# Altium integrated library Altera APEX 20K.IntLib: 93 symbols (part 5 of 14)
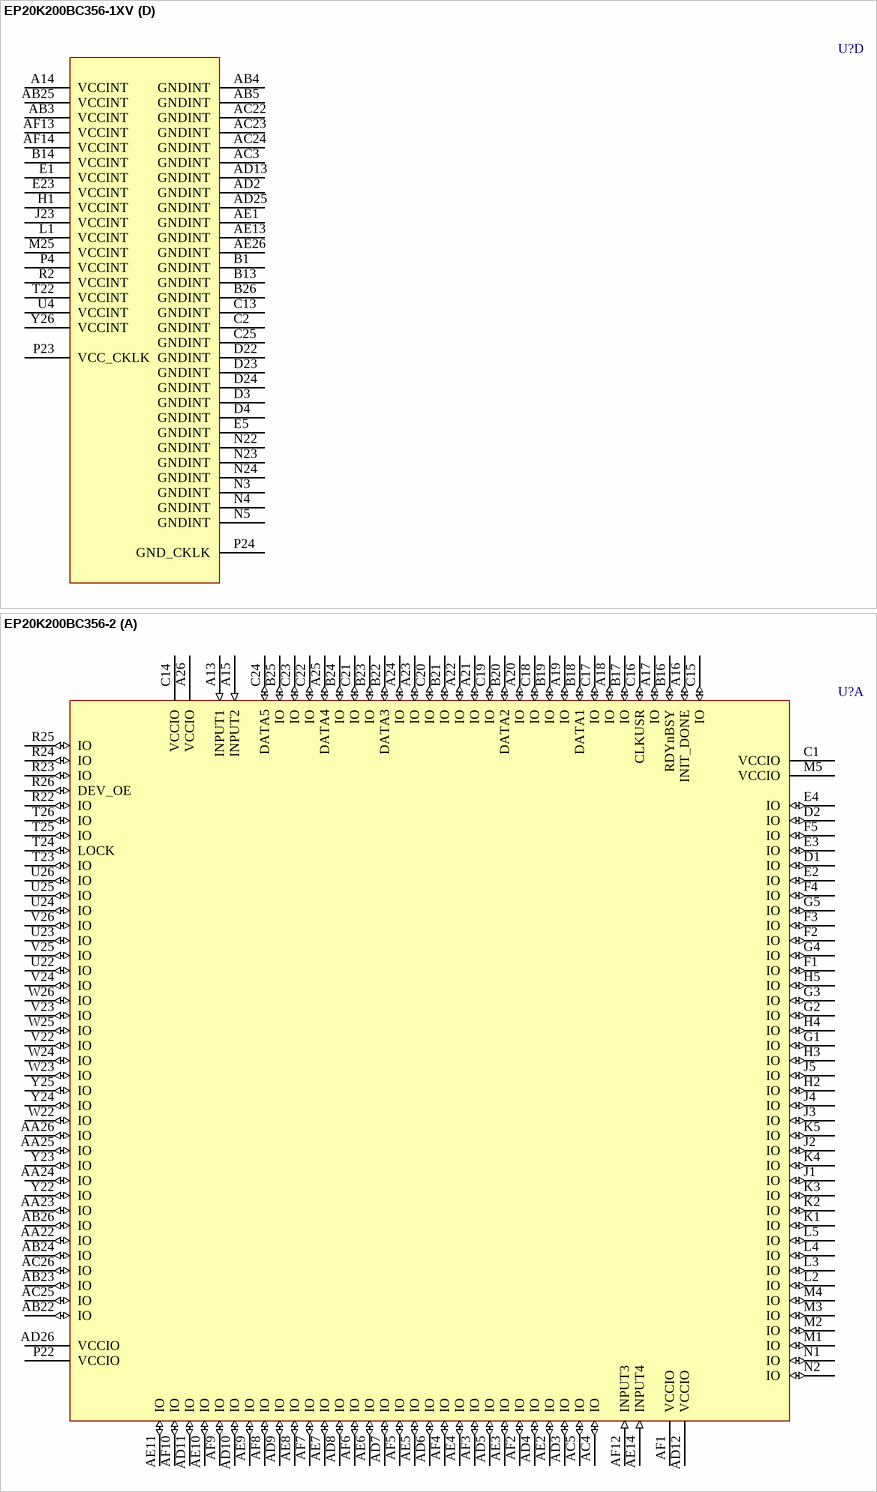
[diagram p206: symbols EP20K200BC356-1XV to EP20K200BC356-2]

## EP20K200BC356-1XV
designator U?
APEX 20K200 PLD with PLLs and 5 V tolerant inputs, 356-Pin BGA, Commercial Grade, Speed Grade 1; ComponentAvailability: Last order accepted - 22-Jul-2005; Published: 17-Jul-2002; LatestRevisionDate: 13-Apr-2006; LatestRevisionNote: IPC-7351 Footprint Added.; DatasheetVersion: ver5.1, Mar-2004; PackageVersion: ver14.2, Oct-2005; PackageReference: BGA356; Publisher: Altium Limited; PackageDescription: 356-Ball Ball Grid Array (BGA356); Code_JEDEC: MO-192-BAR-2; ComponentLink1Description: Manufacturer Link; ComponentLink1URL: http://www.altera.com/products/devices/apex/apx-index.html; ComponentLink2Description: Datasheet; ComponentLink2URL: http://www.altera.com/literature/ds/apex.pdf; ComponentLink3Description: Discontinuation Notice; ComponentLink3URL: http://www.altera.com/literature/pcn/pdn0401.pdf
footprint BGA356 (BGA, 356-Leads, Body 35x35mm, Pitch 1.27mm)
3D model EP20K200-BGA356 (356-Ball Ball Grid Array (BGA356))
part A pins: A13 INPUT1 (in), A15 INPUT2 (in), A16 INIT_DONE (io), A17 IO (io), A18 IO (io), A19 IO (io), A20 IO (io), A21 IO (io), A22 IO (io), A23 IO (io), A24 IO (io), A25 DATA4 (io), A26 VCCIO (power), AA22 IO (io), AA23 IO (io), AA24 IO (io), AA25 IO (io), AA26 IO (io), AB22 IO (io), AB23 IO (io), AB24 IO (io), AB26 IO (io), AC4 IO (io), AC5 IO (io), AC25 IO (io), AC26 IO (io), AD3 IO (io), AD4 IO (io), AD5 IO (io), AD6 IO (io), AD7 IO (io), AD8 IO (io), AD9 IO (io), AD10 IO (io), AD11 IO (io), AD12 VCCIO (power), AD26 VCCIO (power), AE2 IO (io), AE3 IO (io), AE4 IO (io), AE5 IO (io), AE6 IO (io), AE7 IO (io), AE8 IO (io), AE9 IO (io), AE10 IO (io), AE11 IO (io), AE14 INPUT4 (in), AF1 VCCIO (power), AF2 IO (io), AF3 IO (io), AF4 IO (io), AF5 IO (io), AF6 IO (io), AF7 IO (io), AF8 IO (io), AF9 IO (io), AF10 IO (io), AF12 INPUT3 (in), B16 RDYnBSY (io), B17 IO (io), B18 DATA1 (io), B19 IO (io), B20 DATA2 (io), B21 IO (io), B22 DATA3 (io), B23 IO (io), B24 IO (io), B25 IO (io), C1 VCCIO (power), C14 VCCIO (power), C15 IO (io), C16 CLKUSR (io), C17 IO (io), C18 IO (io), C19 IO (io), C20 IO (io), C21 IO (io), C22 IO (io), C23 IO (io), C24 DATA5 (io), D1 IO (io), D2 IO (io), E2 IO (io), E3 IO (io), E4 IO (io), F1 IO (io), F2 IO (io), F3 IO (io), F4 IO (io), F5 IO (io), G1 IO (io), G2 IO (io), G3 IO (io), G4 IO (io), G5 IO (io), H2 IO (io), H3 IO (io), H4 IO (io), H5 IO (io), J1 IO (io), J2 IO (io), J3 IO (io), J4 IO (io), J5 IO (io), K1 IO (io), K2 IO (io), K3 IO (io), K4 IO (io), K5 IO (io), L2 IO (io), L3 IO (io), L4 IO (io), L5 IO (io), M1 IO (io), M2 IO (io), M3 IO (io), M4 IO (io), M5 VCCIO (power), N1 IO (io), N2 IO (io), P22 VCCIO (power), R22 IO (io), R23 IO (io), R24 IO (io), R25 IO (io), R26 DEV_OE (io), T23 IO (io), T24 LOCK (io), T25 IO (io), T26 IO (io), U22 IO (io), U23 IO (io), U24 IO (io), U25 IO (io), U26 IO (io), V22 IO (io), V23 IO (io), V24 IO (io), V25 IO (io), V26 IO (io), W22 IO (io), W23 IO (io), W24 IO (io), W25 IO (io), W26 IO (io), Y22 IO (io), Y23 IO (io), Y24 IO (io), Y25 IO (io)
part B pins: A1 VCCIO (power), A2 IO (io), A3 IO (io), A4 IO (io), A5 IO (io), A6 IO (io), A7 IO (io), A8 IO (io), A9 IO (io), A10 IO (io), A11 IO (io), AA1 IO (io), AA2 IO (io), AA3 IO (io), AA4 IO (io), AA5 IO (io), AB1 IO (io), AB2 IO (io), AC1 IO (io), AC2 IO (io), AD1 VCCIO (power), AD14 VCCIO (power), AD15 IO (io), AD16 IO (io), AD17 IO (io), AD18 IO (io), AD19 IO (io), AD20 IO (io), AD21 IO (io), AD22 IO (io), AD23 IO (io), AD24 IO (io), AE16 IO (io), AE17 IO (io), AE18 IO (io), AE19 IO (io), AE20 IO (io), AE21 IO (io), AE22 IO (io), AE23 IO (io), AE24 IO (io), AE25 IO (io), AF16 IO (io), AF17 IO (io), AF18 IO (io), AF19 IO (io), AF20 IO (io), AF21 IO (io), AF22 IO (io), AF23 IO (io), AF24 IO (io), AF25 IO (io), AF26 VCCIO (power), B2 IO (io), B3 IO (io), B4 IO (io), B5 IO (io), B6 IO (io), B7 IO (io), B8 IO (io), B9 IO (io), B10 IO (io), B11 IO (io), C3 IO (io), C4 IO (io), C5 IO (io), C6 IO (io), C7 IO (io), C8 IO (io), C9 IO (io), C10 IO (io), C11 IO (io), C12 VCCIO (power), C26 VCCIO (power), D5 IO (io), D25 IO (io), D26 IO (io), E22 IO (io), E24 IO (io), E25 IO (io), E26 IO (io), F22 IO (io), F23 IO (io), F24 DATA6 (io), F25 IO (io), F26 IO (io), G22 IO (io), G23 DATA7 (io), G24 IO (io), G25 IO (io), G26 IO (io), H22 nWS (io), H23 IO (io), H24 nRS (io), H25 IO (io), H26 IO (io), J22 IO (io), J24 nCS (io), J25 IO (io), J26 IO (io), K22 IO (io), K23 IO (io), K24 IO (io), K25 CS (io), K26 IO (io), L22 IO (io), L23 DEV_CLRn (io), L24 IO (io), L25 IO (io), L26 IO (io), M22 VCCIO (power), M23 IO (io), M24 IO (io), N26 CLK2 (in), P3 CLK1 (in), P5 VCCIO (power), R3 IO (io), R4 IO (io), R5 IO (io), T1 IO (io), T2 IO (io), T3 IO (io), T4 IO (io), T5 IO (io), U1 IO (io), U2 IO (io), U3 IO (io), U5 IO (io), V1 IO (io), V2 IO (io), V3 IO (io), V4 IO (io), V5 IO (io), W1 IO (io), W2 IO (io), W3 IO (io), W4 IO (io), W5 IO (io), Y1 IO (io), Y2 IO (io), Y3 IO (io), Y4 IO (io), Y5 IO (io)
part C pins: A12 nCEO (out), AE12 TCK (in), AE15 CONF_DONE (io), AF11 TMS (in), AF15 nSTATUS (io), B12 TRST (in), B15 TDO (out), M26 DATA0 (in), N25 DCLK (in), P1 MSEL0 (in), P2 MSEL1 (in), P25 TDI (in), P26 nCE (in), R1 nCONFIG (in)
part D pins: A14 VCCINT (power), AB3 VCCINT (power), AB4 GNDINT (power), AB5 GNDINT (power), AB25 VCCINT (power), AC3 GNDINT (power), AC22 GNDINT (power), AC23 GNDINT (power), AC24 GNDINT (power), AD2 GNDINT (power), AD13 GNDINT (power), AD25 GNDINT (power), AE1 GNDINT (power), AE13 GNDINT (power), AE26 GNDINT (power), AF13 VCCINT (power), AF14 VCCINT (power), B1 GNDINT (power), B13 GNDINT (power), B14 VCCINT (power), B26 GNDINT (power), C2 GNDINT (power), C13 GNDINT (power), C25 GNDINT (power), D3 GNDINT (power), D4 GNDINT (power), D22 GNDINT (power), D23 GNDINT (power), D24 GNDINT (power), E1 VCCINT (power), E5 GNDINT (power), E23 VCCINT (power), H1 VCCINT (power), J23 VCCINT (power), L1 VCCINT (power), M25 VCCINT (power), N3 GNDINT (power), N4 GNDINT (power), N5 GNDINT (power), N22 GNDINT (power), N23 GNDINT (power), N24 GNDINT (power), P4 VCCINT (power), P23 VCC_CKLK (power), P24 GND_CKLK (power), R2 VCCINT (power), T22 VCCINT (power), U4 VCCINT (power), Y26 VCCINT (power)

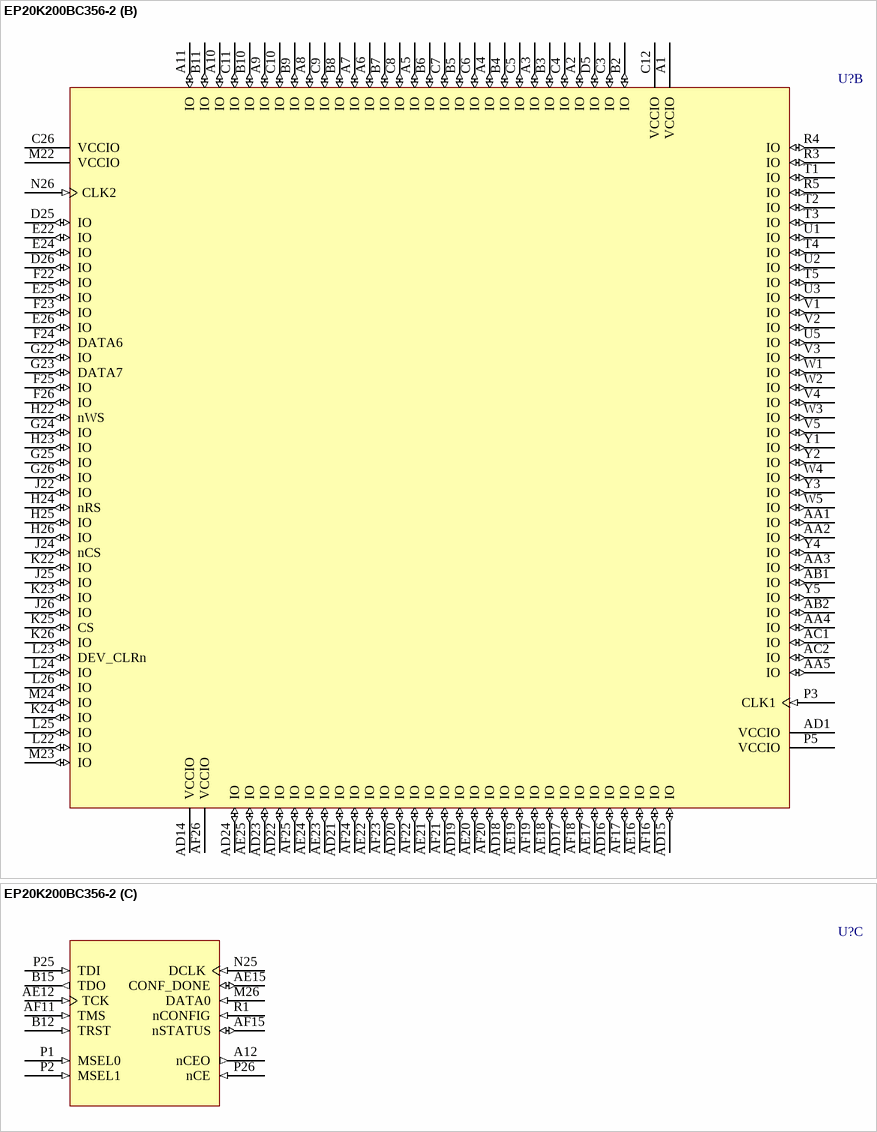
[diagram p53: symbol EP20K200BC356-2]

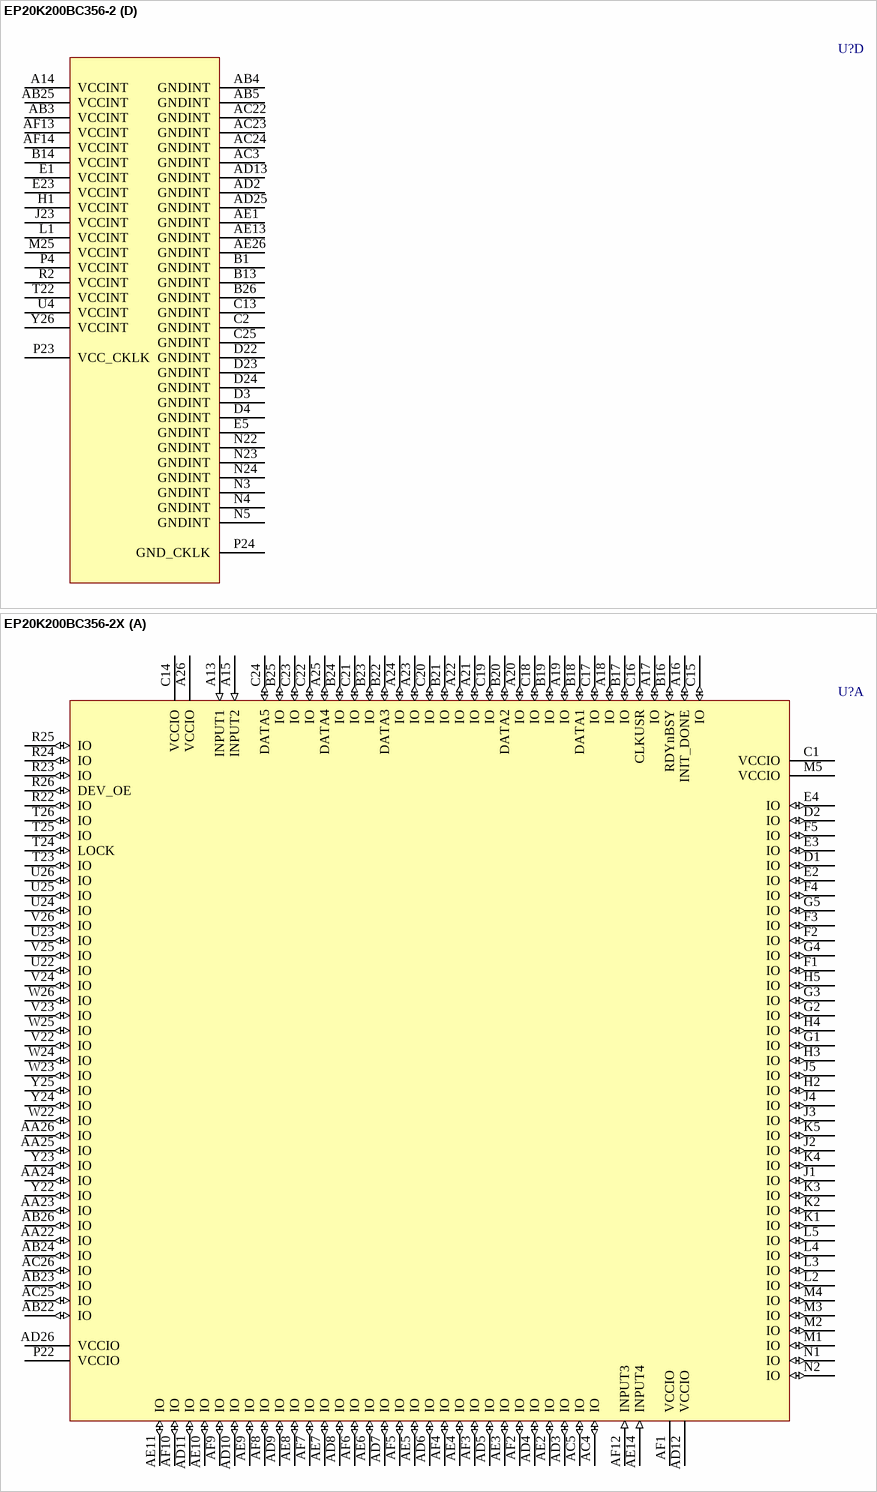
[diagram p54: symbols EP20K200BC356-2 to EP20K200BC356-2X]

## EP20K200BC356-2
designator U?
APEX 20K200 PLD, 356-Pin BGA, Commercial Grade, Speed Grade 2; Published: 17-Jul-2002; LatestRevisionDate: 13-Apr-2006; LatestRevisionNote: IPC-7351 Footprint Added.; DatasheetVersion: ver5.1, Mar-2004; PackageVersion: ver14.2, Oct-2005; PackageReference: BGA356; Publisher: Altium Limited; PackageDescription: 356-Ball Ball Grid Array (BGA356); Code_JEDEC: MO-192-BAR-2; ComponentLink1Description: Manufacturer Link; ComponentLink1URL: http://www.altera.com/products/devices/apex/apx-index.html; ComponentLink2Description: Datasheet; ComponentLink2URL: http://www.altera.com/literature/ds/apex.pdf
footprint BGA356 (BGA, 356-Leads, Body 35x35mm, Pitch 1.27mm)
3D model EP20K200-BGA356 (356-Ball Ball Grid Array (BGA356))
part A pins: A13 INPUT1 (in), A15 INPUT2 (in), A16 INIT_DONE (io), A17 IO (io), A18 IO (io), A19 IO (io), A20 IO (io), A21 IO (io), A22 IO (io), A23 IO (io), A24 IO (io), A25 DATA4 (io), A26 VCCIO (power), AA22 IO (io), AA23 IO (io), AA24 IO (io), AA25 IO (io), AA26 IO (io), AB22 IO (io), AB23 IO (io), AB24 IO (io), AB26 IO (io), AC4 IO (io), AC5 IO (io), AC25 IO (io), AC26 IO (io), AD3 IO (io), AD4 IO (io), AD5 IO (io), AD6 IO (io), AD7 IO (io), AD8 IO (io), AD9 IO (io), AD10 IO (io), AD11 IO (io), AD12 VCCIO (power), AD26 VCCIO (power), AE2 IO (io), AE3 IO (io), AE4 IO (io), AE5 IO (io), AE6 IO (io), AE7 IO (io), AE8 IO (io), AE9 IO (io), AE10 IO (io), AE11 IO (io), AE14 INPUT4 (in), AF1 VCCIO (power), AF2 IO (io), AF3 IO (io), AF4 IO (io), AF5 IO (io), AF6 IO (io), AF7 IO (io), AF8 IO (io), AF9 IO (io), AF10 IO (io), AF12 INPUT3 (in), B16 RDYnBSY (io), B17 IO (io), B18 DATA1 (io), B19 IO (io), B20 DATA2 (io), B21 IO (io), B22 DATA3 (io), B23 IO (io), B24 IO (io), B25 IO (io), C1 VCCIO (power), C14 VCCIO (power), C15 IO (io), C16 CLKUSR (io), C17 IO (io), C18 IO (io), C19 IO (io), C20 IO (io), C21 IO (io), C22 IO (io), C23 IO (io), C24 DATA5 (io), D1 IO (io), D2 IO (io), E2 IO (io), E3 IO (io), E4 IO (io), F1 IO (io), F2 IO (io), F3 IO (io), F4 IO (io), F5 IO (io), G1 IO (io), G2 IO (io), G3 IO (io), G4 IO (io), G5 IO (io), H2 IO (io), H3 IO (io), H4 IO (io), H5 IO (io), J1 IO (io), J2 IO (io), J3 IO (io), J4 IO (io), J5 IO (io), K1 IO (io), K2 IO (io), K3 IO (io), K4 IO (io), K5 IO (io), L2 IO (io), L3 IO (io), L4 IO (io), L5 IO (io), M1 IO (io), M2 IO (io), M3 IO (io), M4 IO (io), M5 VCCIO (power), N1 IO (io), N2 IO (io), P22 VCCIO (power), R22 IO (io), R23 IO (io), R24 IO (io), R25 IO (io), R26 DEV_OE (io), T23 IO (io), T24 LOCK (io), T25 IO (io), T26 IO (io), U22 IO (io), U23 IO (io), U24 IO (io), U25 IO (io), U26 IO (io), V22 IO (io), V23 IO (io), V24 IO (io), V25 IO (io), V26 IO (io), W22 IO (io), W23 IO (io), W24 IO (io), W25 IO (io), W26 IO (io), Y22 IO (io), Y23 IO (io), Y24 IO (io), Y25 IO (io)
part B pins: A1 VCCIO (power), A2 IO (io), A3 IO (io), A4 IO (io), A5 IO (io), A6 IO (io), A7 IO (io), A8 IO (io), A9 IO (io), A10 IO (io), A11 IO (io), AA1 IO (io), AA2 IO (io), AA3 IO (io), AA4 IO (io), AA5 IO (io), AB1 IO (io), AB2 IO (io), AC1 IO (io), AC2 IO (io), AD1 VCCIO (power), AD14 VCCIO (power), AD15 IO (io), AD16 IO (io), AD17 IO (io), AD18 IO (io), AD19 IO (io), AD20 IO (io), AD21 IO (io), AD22 IO (io), AD23 IO (io), AD24 IO (io), AE16 IO (io), AE17 IO (io), AE18 IO (io), AE19 IO (io), AE20 IO (io), AE21 IO (io), AE22 IO (io), AE23 IO (io), AE24 IO (io), AE25 IO (io), AF16 IO (io), AF17 IO (io), AF18 IO (io), AF19 IO (io), AF20 IO (io), AF21 IO (io), AF22 IO (io), AF23 IO (io), AF24 IO (io), AF25 IO (io), AF26 VCCIO (power), B2 IO (io), B3 IO (io), B4 IO (io), B5 IO (io), B6 IO (io), B7 IO (io), B8 IO (io), B9 IO (io), B10 IO (io), B11 IO (io), C3 IO (io), C4 IO (io), C5 IO (io), C6 IO (io), C7 IO (io), C8 IO (io), C9 IO (io), C10 IO (io), C11 IO (io), C12 VCCIO (power), C26 VCCIO (power), D5 IO (io), D25 IO (io), D26 IO (io), E22 IO (io), E24 IO (io), E25 IO (io), E26 IO (io), F22 IO (io), F23 IO (io), F24 DATA6 (io), F25 IO (io), F26 IO (io), G22 IO (io), G23 DATA7 (io), G24 IO (io), G25 IO (io), G26 IO (io), H22 nWS (io), H23 IO (io), H24 nRS (io), H25 IO (io), H26 IO (io), J22 IO (io), J24 nCS (io), J25 IO (io), J26 IO (io), K22 IO (io), K23 IO (io), K24 IO (io), K25 CS (io), K26 IO (io), L22 IO (io), L23 DEV_CLRn (io), L24 IO (io), L25 IO (io), L26 IO (io), M22 VCCIO (power), M23 IO (io), M24 IO (io), N26 CLK2 (in), P3 CLK1 (in), P5 VCCIO (power), R3 IO (io), R4 IO (io), R5 IO (io), T1 IO (io), T2 IO (io), T3 IO (io), T4 IO (io), T5 IO (io), U1 IO (io), U2 IO (io), U3 IO (io), U5 IO (io), V1 IO (io), V2 IO (io), V3 IO (io), V4 IO (io), V5 IO (io), W1 IO (io), W2 IO (io), W3 IO (io), W4 IO (io), W5 IO (io), Y1 IO (io), Y2 IO (io), Y3 IO (io), Y4 IO (io), Y5 IO (io)
part C pins: A12 nCEO (out), AE12 TCK (in), AE15 CONF_DONE (io), AF11 TMS (in), AF15 nSTATUS (io), B12 TRST (in), B15 TDO (out), M26 DATA0 (in), N25 DCLK (in), P1 MSEL0 (in), P2 MSEL1 (in), P25 TDI (in), P26 nCE (in), R1 nCONFIG (in)
part D pins: A14 VCCINT (power), AB3 VCCINT (power), AB4 GNDINT (power), AB5 GNDINT (power), AB25 VCCINT (power), AC3 GNDINT (power), AC22 GNDINT (power), AC23 GNDINT (power), AC24 GNDINT (power), AD2 GNDINT (power), AD13 GNDINT (power), AD25 GNDINT (power), AE1 GNDINT (power), AE13 GNDINT (power), AE26 GNDINT (power), AF13 VCCINT (power), AF14 VCCINT (power), B1 GNDINT (power), B13 GNDINT (power), B14 VCCINT (power), B26 GNDINT (power), C2 GNDINT (power), C13 GNDINT (power), C25 GNDINT (power), D3 GNDINT (power), D4 GNDINT (power), D22 GNDINT (power), D23 GNDINT (power), D24 GNDINT (power), E1 VCCINT (power), E5 GNDINT (power), E23 VCCINT (power), H1 VCCINT (power), J23 VCCINT (power), L1 VCCINT (power), M25 VCCINT (power), N3 GNDINT (power), N4 GNDINT (power), N5 GNDINT (power), N22 GNDINT (power), N23 GNDINT (power), N24 GNDINT (power), P4 VCCINT (power), P23 VCC_CKLK (power), P24 GND_CKLK (power), R2 VCCINT (power), T22 VCCINT (power), U4 VCCINT (power), Y26 VCCINT (power)

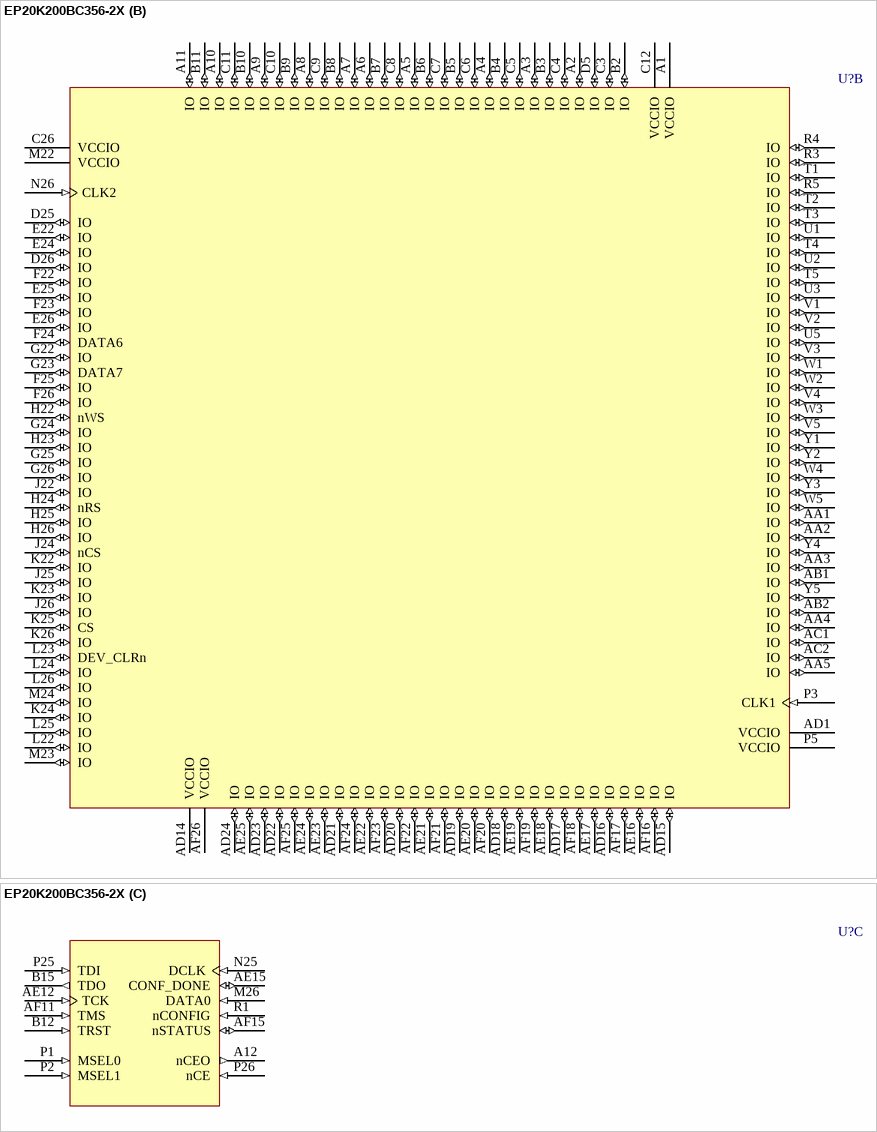
[diagram p55: symbol EP20K200BC356-2X]

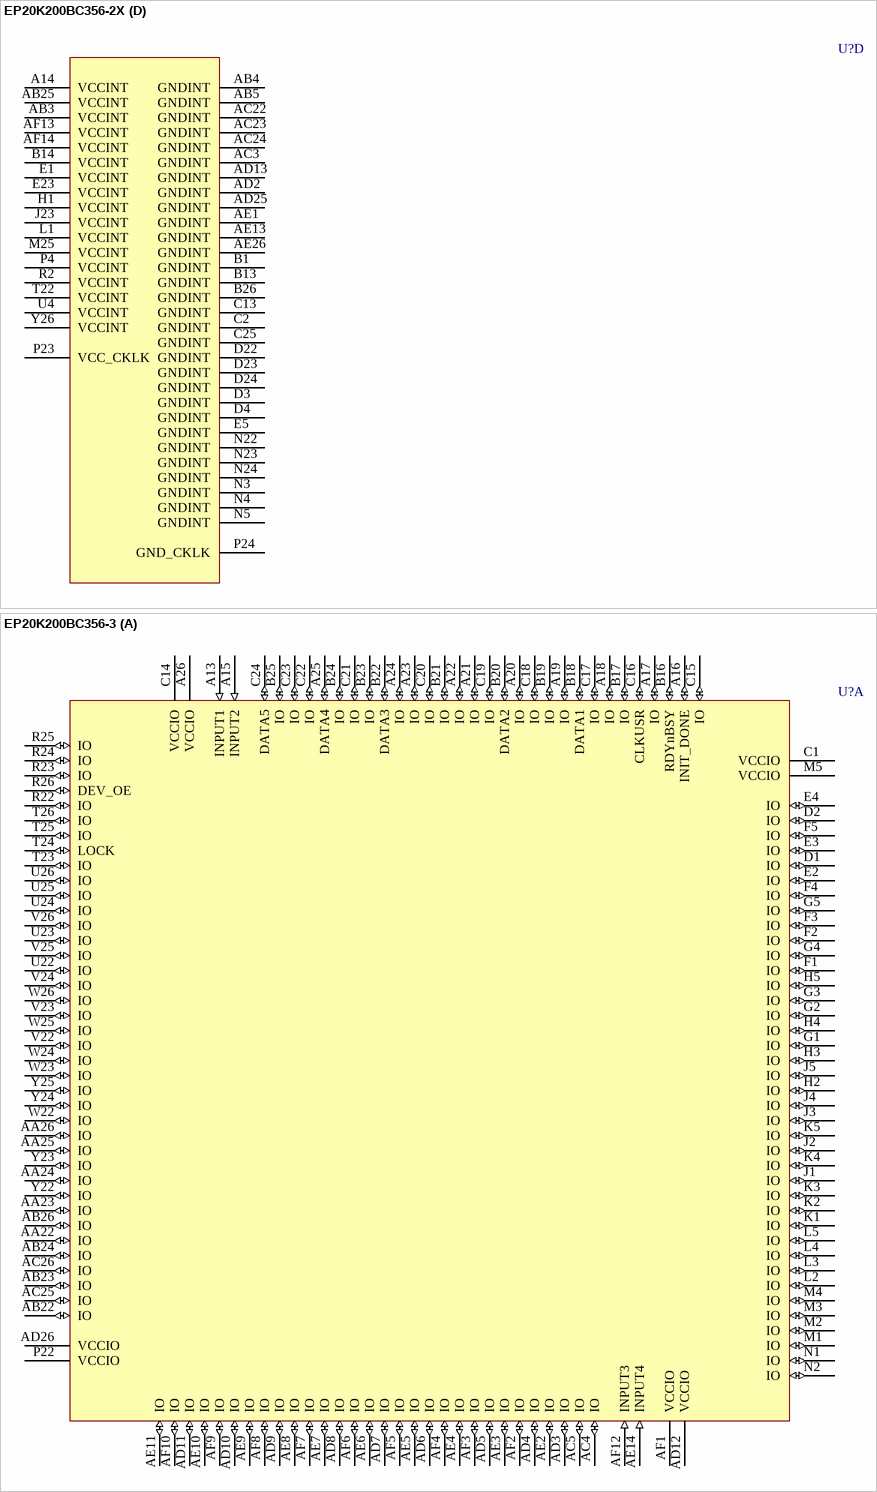
[diagram p56: symbols EP20K200BC356-2X to EP20K200BC356-3]

## EP20K200BC356-2X
designator U?
APEX 20K200 PLD with PLLs, 356-Pin BGA, Commercial Grade, Speed Grade 2; Published: 17-Jul-2002; LatestRevisionDate: 13-Apr-2006; LatestRevisionNote: IPC-7351 Footprint Added.; DatasheetVersion: ver5.1, Mar-2004; PackageVersion: ver14.2, Oct-2005; PackageReference: BGA356; Publisher: Altium Limited; PackageDescription: 356-Ball Ball Grid Array (BGA356); Code_JEDEC: MO-192-BAR-2; ComponentLink1Description: Manufacturer Link; ComponentLink1URL: http://www.altera.com/products/devices/apex/apx-index.html; ComponentLink2Description: Datasheet; ComponentLink2URL: http://www.altera.com/literature/ds/apex.pdf
footprint BGA356 (BGA, 356-Leads, Body 35x35mm, Pitch 1.27mm)
3D model EP20K200-BGA356 (356-Ball Ball Grid Array (BGA356))
part A pins: A13 INPUT1 (in), A15 INPUT2 (in), A16 INIT_DONE (io), A17 IO (io), A18 IO (io), A19 IO (io), A20 IO (io), A21 IO (io), A22 IO (io), A23 IO (io), A24 IO (io), A25 DATA4 (io), A26 VCCIO (power), AA22 IO (io), AA23 IO (io), AA24 IO (io), AA25 IO (io), AA26 IO (io), AB22 IO (io), AB23 IO (io), AB24 IO (io), AB26 IO (io), AC4 IO (io), AC5 IO (io), AC25 IO (io), AC26 IO (io), AD3 IO (io), AD4 IO (io), AD5 IO (io), AD6 IO (io), AD7 IO (io), AD8 IO (io), AD9 IO (io), AD10 IO (io), AD11 IO (io), AD12 VCCIO (power), AD26 VCCIO (power), AE2 IO (io), AE3 IO (io), AE4 IO (io), AE5 IO (io), AE6 IO (io), AE7 IO (io), AE8 IO (io), AE9 IO (io), AE10 IO (io), AE11 IO (io), AE14 INPUT4 (in), AF1 VCCIO (power), AF2 IO (io), AF3 IO (io), AF4 IO (io), AF5 IO (io), AF6 IO (io), AF7 IO (io), AF8 IO (io), AF9 IO (io), AF10 IO (io), AF12 INPUT3 (in), B16 RDYnBSY (io), B17 IO (io), B18 DATA1 (io), B19 IO (io), B20 DATA2 (io), B21 IO (io), B22 DATA3 (io), B23 IO (io), B24 IO (io), B25 IO (io), C1 VCCIO (power), C14 VCCIO (power), C15 IO (io), C16 CLKUSR (io), C17 IO (io), C18 IO (io), C19 IO (io), C20 IO (io), C21 IO (io), C22 IO (io), C23 IO (io), C24 DATA5 (io), D1 IO (io), D2 IO (io), E2 IO (io), E3 IO (io), E4 IO (io), F1 IO (io), F2 IO (io), F3 IO (io), F4 IO (io), F5 IO (io), G1 IO (io), G2 IO (io), G3 IO (io), G4 IO (io), G5 IO (io), H2 IO (io), H3 IO (io), H4 IO (io), H5 IO (io), J1 IO (io), J2 IO (io), J3 IO (io), J4 IO (io), J5 IO (io), K1 IO (io), K2 IO (io), K3 IO (io), K4 IO (io), K5 IO (io), L2 IO (io), L3 IO (io), L4 IO (io), L5 IO (io), M1 IO (io), M2 IO (io), M3 IO (io), M4 IO (io), M5 VCCIO (power), N1 IO (io), N2 IO (io), P22 VCCIO (power), R22 IO (io), R23 IO (io), R24 IO (io), R25 IO (io), R26 DEV_OE (io), T23 IO (io), T24 LOCK (io), T25 IO (io), T26 IO (io), U22 IO (io), U23 IO (io), U24 IO (io), U25 IO (io), U26 IO (io), V22 IO (io), V23 IO (io), V24 IO (io), V25 IO (io), V26 IO (io), W22 IO (io), W23 IO (io), W24 IO (io), W25 IO (io), W26 IO (io), Y22 IO (io), Y23 IO (io), Y24 IO (io), Y25 IO (io)
part B pins: A1 VCCIO (power), A2 IO (io), A3 IO (io), A4 IO (io), A5 IO (io), A6 IO (io), A7 IO (io), A8 IO (io), A9 IO (io), A10 IO (io), A11 IO (io), AA1 IO (io), AA2 IO (io), AA3 IO (io), AA4 IO (io), AA5 IO (io), AB1 IO (io), AB2 IO (io), AC1 IO (io), AC2 IO (io), AD1 VCCIO (power), AD14 VCCIO (power), AD15 IO (io), AD16 IO (io), AD17 IO (io), AD18 IO (io), AD19 IO (io), AD20 IO (io), AD21 IO (io), AD22 IO (io), AD23 IO (io), AD24 IO (io), AE16 IO (io), AE17 IO (io), AE18 IO (io), AE19 IO (io), AE20 IO (io), AE21 IO (io), AE22 IO (io), AE23 IO (io), AE24 IO (io), AE25 IO (io), AF16 IO (io), AF17 IO (io), AF18 IO (io), AF19 IO (io), AF20 IO (io), AF21 IO (io), AF22 IO (io), AF23 IO (io), AF24 IO (io), AF25 IO (io), AF26 VCCIO (power), B2 IO (io), B3 IO (io), B4 IO (io), B5 IO (io), B6 IO (io), B7 IO (io), B8 IO (io), B9 IO (io), B10 IO (io), B11 IO (io), C3 IO (io), C4 IO (io), C5 IO (io), C6 IO (io), C7 IO (io), C8 IO (io), C9 IO (io), C10 IO (io), C11 IO (io), C12 VCCIO (power), C26 VCCIO (power), D5 IO (io), D25 IO (io), D26 IO (io), E22 IO (io), E24 IO (io), E25 IO (io), E26 IO (io), F22 IO (io), F23 IO (io), F24 DATA6 (io), F25 IO (io), F26 IO (io), G22 IO (io), G23 DATA7 (io), G24 IO (io), G25 IO (io), G26 IO (io), H22 nWS (io), H23 IO (io), H24 nRS (io), H25 IO (io), H26 IO (io), J22 IO (io), J24 nCS (io), J25 IO (io), J26 IO (io), K22 IO (io), K23 IO (io), K24 IO (io), K25 CS (io), K26 IO (io), L22 IO (io), L23 DEV_CLRn (io), L24 IO (io), L25 IO (io), L26 IO (io), M22 VCCIO (power), M23 IO (io), M24 IO (io), N26 CLK2 (in), P3 CLK1 (in), P5 VCCIO (power), R3 IO (io), R4 IO (io), R5 IO (io), T1 IO (io), T2 IO (io), T3 IO (io), T4 IO (io), T5 IO (io), U1 IO (io), U2 IO (io), U3 IO (io), U5 IO (io), V1 IO (io), V2 IO (io), V3 IO (io), V4 IO (io), V5 IO (io), W1 IO (io), W2 IO (io), W3 IO (io), W4 IO (io), W5 IO (io), Y1 IO (io), Y2 IO (io), Y3 IO (io), Y4 IO (io), Y5 IO (io)
part C pins: A12 nCEO (out), AE12 TCK (in), AE15 CONF_DONE (io), AF11 TMS (in), AF15 nSTATUS (io), B12 TRST (in), B15 TDO (out), M26 DATA0 (in), N25 DCLK (in), P1 MSEL0 (in), P2 MSEL1 (in), P25 TDI (in), P26 nCE (in), R1 nCONFIG (in)
part D pins: A14 VCCINT (power), AB3 VCCINT (power), AB4 GNDINT (power), AB5 GNDINT (power), AB25 VCCINT (power), AC3 GNDINT (power), AC22 GNDINT (power), AC23 GNDINT (power), AC24 GNDINT (power), AD2 GNDINT (power), AD13 GNDINT (power), AD25 GNDINT (power), AE1 GNDINT (power), AE13 GNDINT (power), AE26 GNDINT (power), AF13 VCCINT (power), AF14 VCCINT (power), B1 GNDINT (power), B13 GNDINT (power), B14 VCCINT (power), B26 GNDINT (power), C2 GNDINT (power), C13 GNDINT (power), C25 GNDINT (power), D3 GNDINT (power), D4 GNDINT (power), D22 GNDINT (power), D23 GNDINT (power), D24 GNDINT (power), E1 VCCINT (power), E5 GNDINT (power), E23 VCCINT (power), H1 VCCINT (power), J23 VCCINT (power), L1 VCCINT (power), M25 VCCINT (power), N3 GNDINT (power), N4 GNDINT (power), N5 GNDINT (power), N22 GNDINT (power), N23 GNDINT (power), N24 GNDINT (power), P4 VCCINT (power), P23 VCC_CKLK (power), P24 GND_CKLK (power), R2 VCCINT (power), T22 VCCINT (power), U4 VCCINT (power), Y26 VCCINT (power)

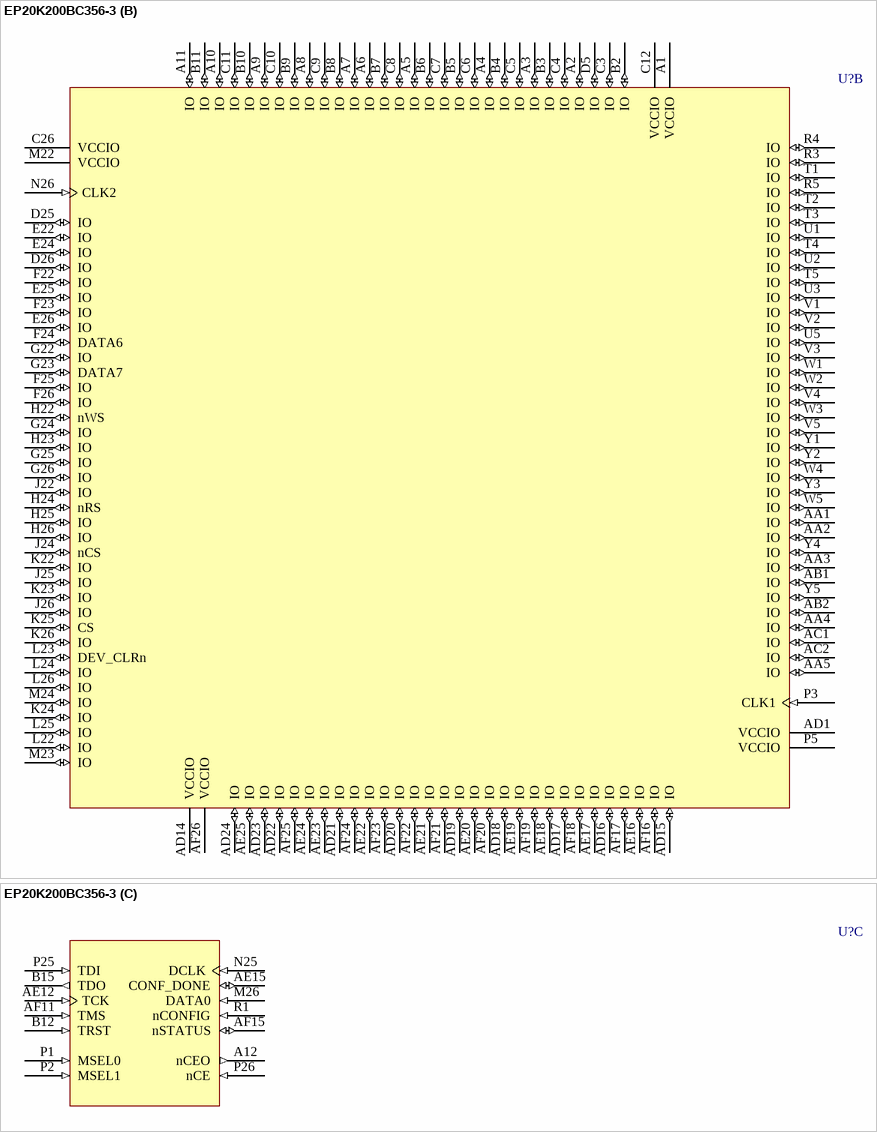
[diagram p57: symbol EP20K200BC356-3]

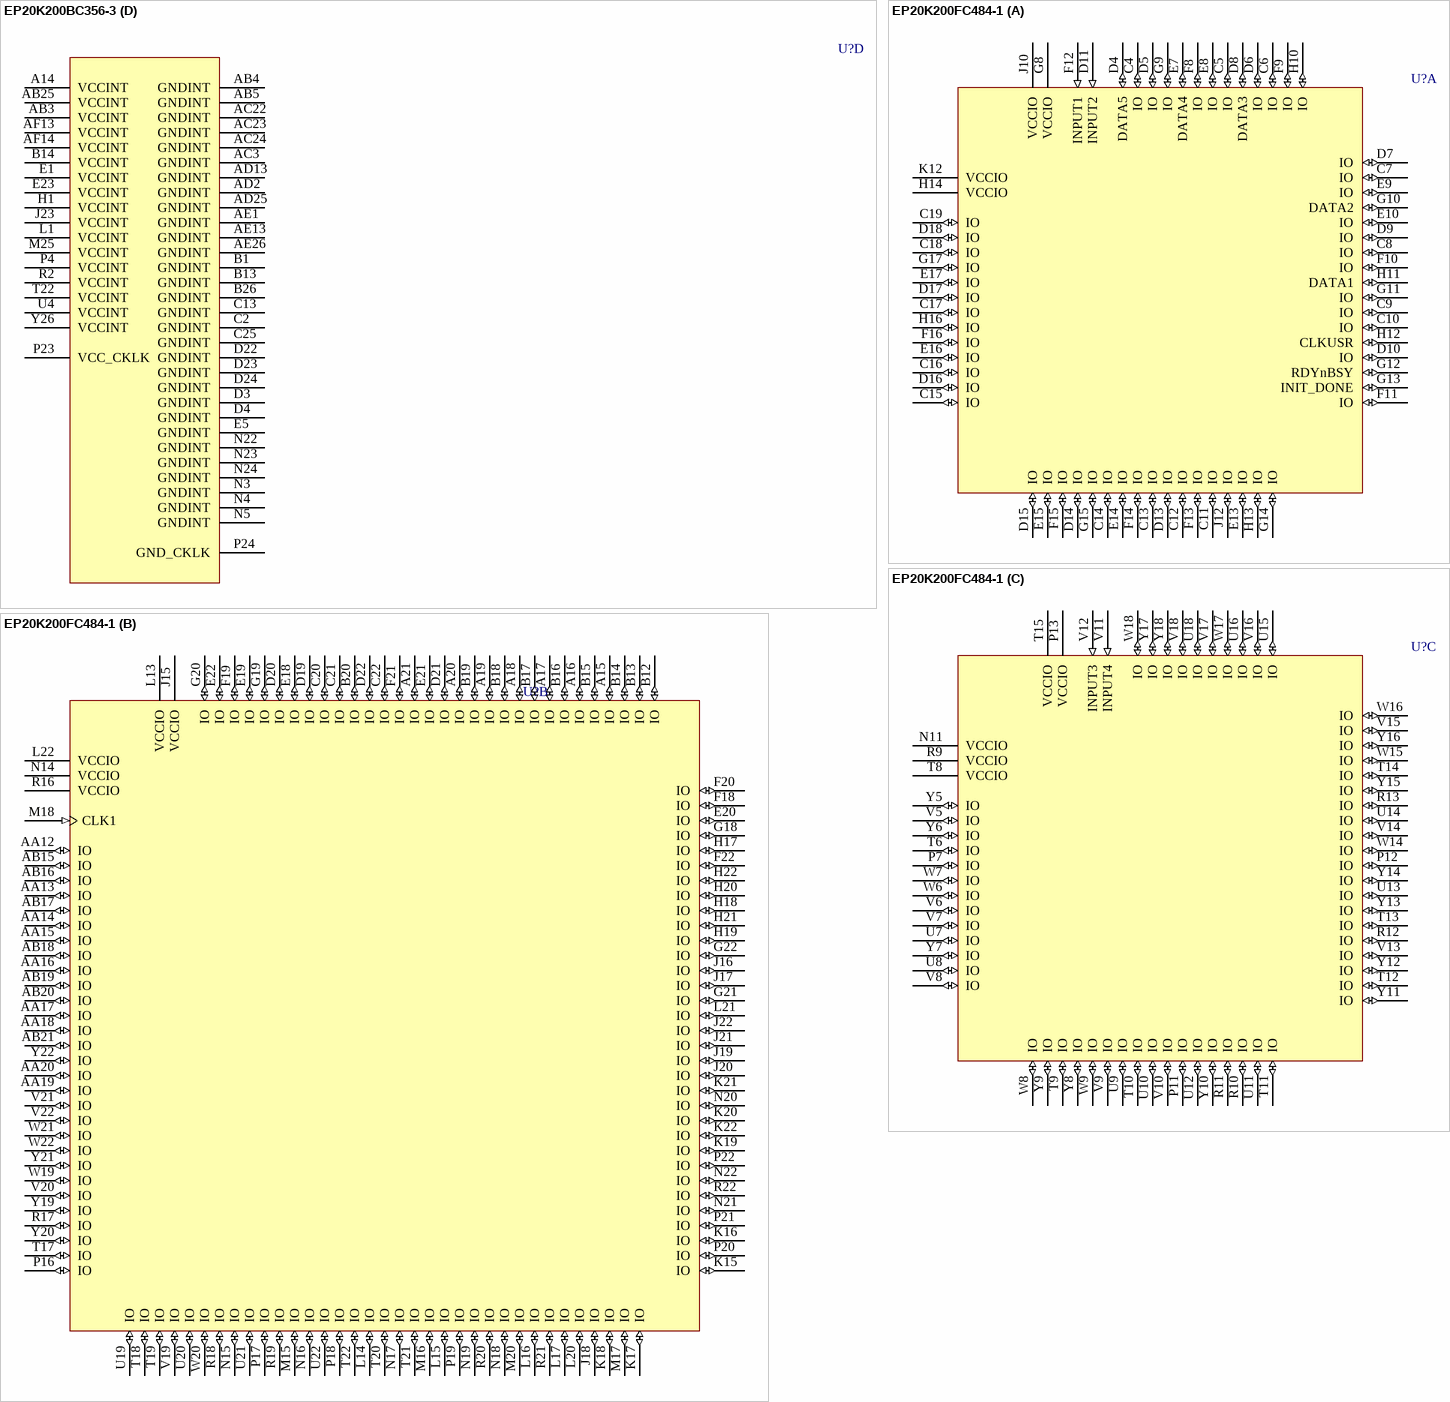
[diagram p58: symbols EP20K200BC356-3 to EP20K200FC484-1]

## EP20K200BC356-3
designator U?
APEX 20K200 PLD, 356-Pin BGA, Commercial Grade, Speed Grade 3; Published: 17-Jul-2002; LatestRevisionDate: 13-Apr-2006; LatestRevisionNote: IPC-7351 Footprint Added.; DatasheetVersion: ver5.1, Mar-2004; PackageVersion: ver14.2, Oct-2005; PackageReference: BGA356; Publisher: Altium Limited; PackageDescription: 356-Ball Ball Grid Array (BGA356); Code_JEDEC: MO-192-BAR-2; ComponentLink1Description: Manufacturer Link; ComponentLink1URL: http://www.altera.com/products/devices/apex/apx-index.html; ComponentLink2Description: Datasheet; ComponentLink2URL: http://www.altera.com/literature/ds/apex.pdf
footprint BGA356 (BGA, 356-Leads, Body 35x35mm, Pitch 1.27mm)
3D model EP20K200-BGA356 (356-Ball Ball Grid Array (BGA356))
part A pins: A13 INPUT1 (in), A15 INPUT2 (in), A16 INIT_DONE (io), A17 IO (io), A18 IO (io), A19 IO (io), A20 IO (io), A21 IO (io), A22 IO (io), A23 IO (io), A24 IO (io), A25 DATA4 (io), A26 VCCIO (power), AA22 IO (io), AA23 IO (io), AA24 IO (io), AA25 IO (io), AA26 IO (io), AB22 IO (io), AB23 IO (io), AB24 IO (io), AB26 IO (io), AC4 IO (io), AC5 IO (io), AC25 IO (io), AC26 IO (io), AD3 IO (io), AD4 IO (io), AD5 IO (io), AD6 IO (io), AD7 IO (io), AD8 IO (io), AD9 IO (io), AD10 IO (io), AD11 IO (io), AD12 VCCIO (power), AD26 VCCIO (power), AE2 IO (io), AE3 IO (io), AE4 IO (io), AE5 IO (io), AE6 IO (io), AE7 IO (io), AE8 IO (io), AE9 IO (io), AE10 IO (io), AE11 IO (io), AE14 INPUT4 (in), AF1 VCCIO (power), AF2 IO (io), AF3 IO (io), AF4 IO (io), AF5 IO (io), AF6 IO (io), AF7 IO (io), AF8 IO (io), AF9 IO (io), AF10 IO (io), AF12 INPUT3 (in), B16 RDYnBSY (io), B17 IO (io), B18 DATA1 (io), B19 IO (io), B20 DATA2 (io), B21 IO (io), B22 DATA3 (io), B23 IO (io), B24 IO (io), B25 IO (io), C1 VCCIO (power), C14 VCCIO (power), C15 IO (io), C16 CLKUSR (io), C17 IO (io), C18 IO (io), C19 IO (io), C20 IO (io), C21 IO (io), C22 IO (io), C23 IO (io), C24 DATA5 (io), D1 IO (io), D2 IO (io), E2 IO (io), E3 IO (io), E4 IO (io), F1 IO (io), F2 IO (io), F3 IO (io), F4 IO (io), F5 IO (io), G1 IO (io), G2 IO (io), G3 IO (io), G4 IO (io), G5 IO (io), H2 IO (io), H3 IO (io), H4 IO (io), H5 IO (io), J1 IO (io), J2 IO (io), J3 IO (io), J4 IO (io), J5 IO (io), K1 IO (io), K2 IO (io), K3 IO (io), K4 IO (io), K5 IO (io), L2 IO (io), L3 IO (io), L4 IO (io), L5 IO (io), M1 IO (io), M2 IO (io), M3 IO (io), M4 IO (io), M5 VCCIO (power), N1 IO (io), N2 IO (io), P22 VCCIO (power), R22 IO (io), R23 IO (io), R24 IO (io), R25 IO (io), R26 DEV_OE (io), T23 IO (io), T24 LOCK (io), T25 IO (io), T26 IO (io), U22 IO (io), U23 IO (io), U24 IO (io), U25 IO (io), U26 IO (io), V22 IO (io), V23 IO (io), V24 IO (io), V25 IO (io), V26 IO (io), W22 IO (io), W23 IO (io), W24 IO (io), W25 IO (io), W26 IO (io), Y22 IO (io), Y23 IO (io), Y24 IO (io), Y25 IO (io)
part B pins: A1 VCCIO (power), A2 IO (io), A3 IO (io), A4 IO (io), A5 IO (io), A6 IO (io), A7 IO (io), A8 IO (io), A9 IO (io), A10 IO (io), A11 IO (io), AA1 IO (io), AA2 IO (io), AA3 IO (io), AA4 IO (io), AA5 IO (io), AB1 IO (io), AB2 IO (io), AC1 IO (io), AC2 IO (io), AD1 VCCIO (power), AD14 VCCIO (power), AD15 IO (io), AD16 IO (io), AD17 IO (io), AD18 IO (io), AD19 IO (io), AD20 IO (io), AD21 IO (io), AD22 IO (io), AD23 IO (io), AD24 IO (io), AE16 IO (io), AE17 IO (io), AE18 IO (io), AE19 IO (io), AE20 IO (io), AE21 IO (io), AE22 IO (io), AE23 IO (io), AE24 IO (io), AE25 IO (io), AF16 IO (io), AF17 IO (io), AF18 IO (io), AF19 IO (io), AF20 IO (io), AF21 IO (io), AF22 IO (io), AF23 IO (io), AF24 IO (io), AF25 IO (io), AF26 VCCIO (power), B2 IO (io), B3 IO (io), B4 IO (io), B5 IO (io), B6 IO (io), B7 IO (io), B8 IO (io), B9 IO (io), B10 IO (io), B11 IO (io), C3 IO (io), C4 IO (io), C5 IO (io), C6 IO (io), C7 IO (io), C8 IO (io), C9 IO (io), C10 IO (io), C11 IO (io), C12 VCCIO (power), C26 VCCIO (power), D5 IO (io), D25 IO (io), D26 IO (io), E22 IO (io), E24 IO (io), E25 IO (io), E26 IO (io), F22 IO (io), F23 IO (io), F24 DATA6 (io), F25 IO (io), F26 IO (io), G22 IO (io), G23 DATA7 (io), G24 IO (io), G25 IO (io), G26 IO (io), H22 nWS (io), H23 IO (io), H24 nRS (io), H25 IO (io), H26 IO (io), J22 IO (io), J24 nCS (io), J25 IO (io), J26 IO (io), K22 IO (io), K23 IO (io), K24 IO (io), K25 CS (io), K26 IO (io), L22 IO (io), L23 DEV_CLRn (io), L24 IO (io), L25 IO (io), L26 IO (io), M22 VCCIO (power), M23 IO (io), M24 IO (io), N26 CLK2 (in), P3 CLK1 (in), P5 VCCIO (power), R3 IO (io), R4 IO (io), R5 IO (io), T1 IO (io), T2 IO (io), T3 IO (io), T4 IO (io), T5 IO (io), U1 IO (io), U2 IO (io), U3 IO (io), U5 IO (io), V1 IO (io), V2 IO (io), V3 IO (io), V4 IO (io), V5 IO (io), W1 IO (io), W2 IO (io), W3 IO (io), W4 IO (io), W5 IO (io), Y1 IO (io), Y2 IO (io), Y3 IO (io), Y4 IO (io), Y5 IO (io)
part C pins: A12 nCEO (out), AE12 TCK (in), AE15 CONF_DONE (io), AF11 TMS (in), AF15 nSTATUS (io), B12 TRST (in), B15 TDO (out), M26 DATA0 (in), N25 DCLK (in), P1 MSEL0 (in), P2 MSEL1 (in), P25 TDI (in), P26 nCE (in), R1 nCONFIG (in)
part D pins: A14 VCCINT (power), AB3 VCCINT (power), AB4 GNDINT (power), AB5 GNDINT (power), AB25 VCCINT (power), AC3 GNDINT (power), AC22 GNDINT (power), AC23 GNDINT (power), AC24 GNDINT (power), AD2 GNDINT (power), AD13 GNDINT (power), AD25 GNDINT (power), AE1 GNDINT (power), AE13 GNDINT (power), AE26 GNDINT (power), AF13 VCCINT (power), AF14 VCCINT (power), B1 GNDINT (power), B13 GNDINT (power), B14 VCCINT (power), B26 GNDINT (power), C2 GNDINT (power), C13 GNDINT (power), C25 GNDINT (power), D3 GNDINT (power), D4 GNDINT (power), D22 GNDINT (power), D23 GNDINT (power), D24 GNDINT (power), E1 VCCINT (power), E5 GNDINT (power), E23 VCCINT (power), H1 VCCINT (power), J23 VCCINT (power), L1 VCCINT (power), M25 VCCINT (power), N3 GNDINT (power), N4 GNDINT (power), N5 GNDINT (power), N22 GNDINT (power), N23 GNDINT (power), N24 GNDINT (power), P4 VCCINT (power), P23 VCC_CKLK (power), P24 GND_CKLK (power), R2 VCCINT (power), T22 VCCINT (power), U4 VCCINT (power), Y26 VCCINT (power)

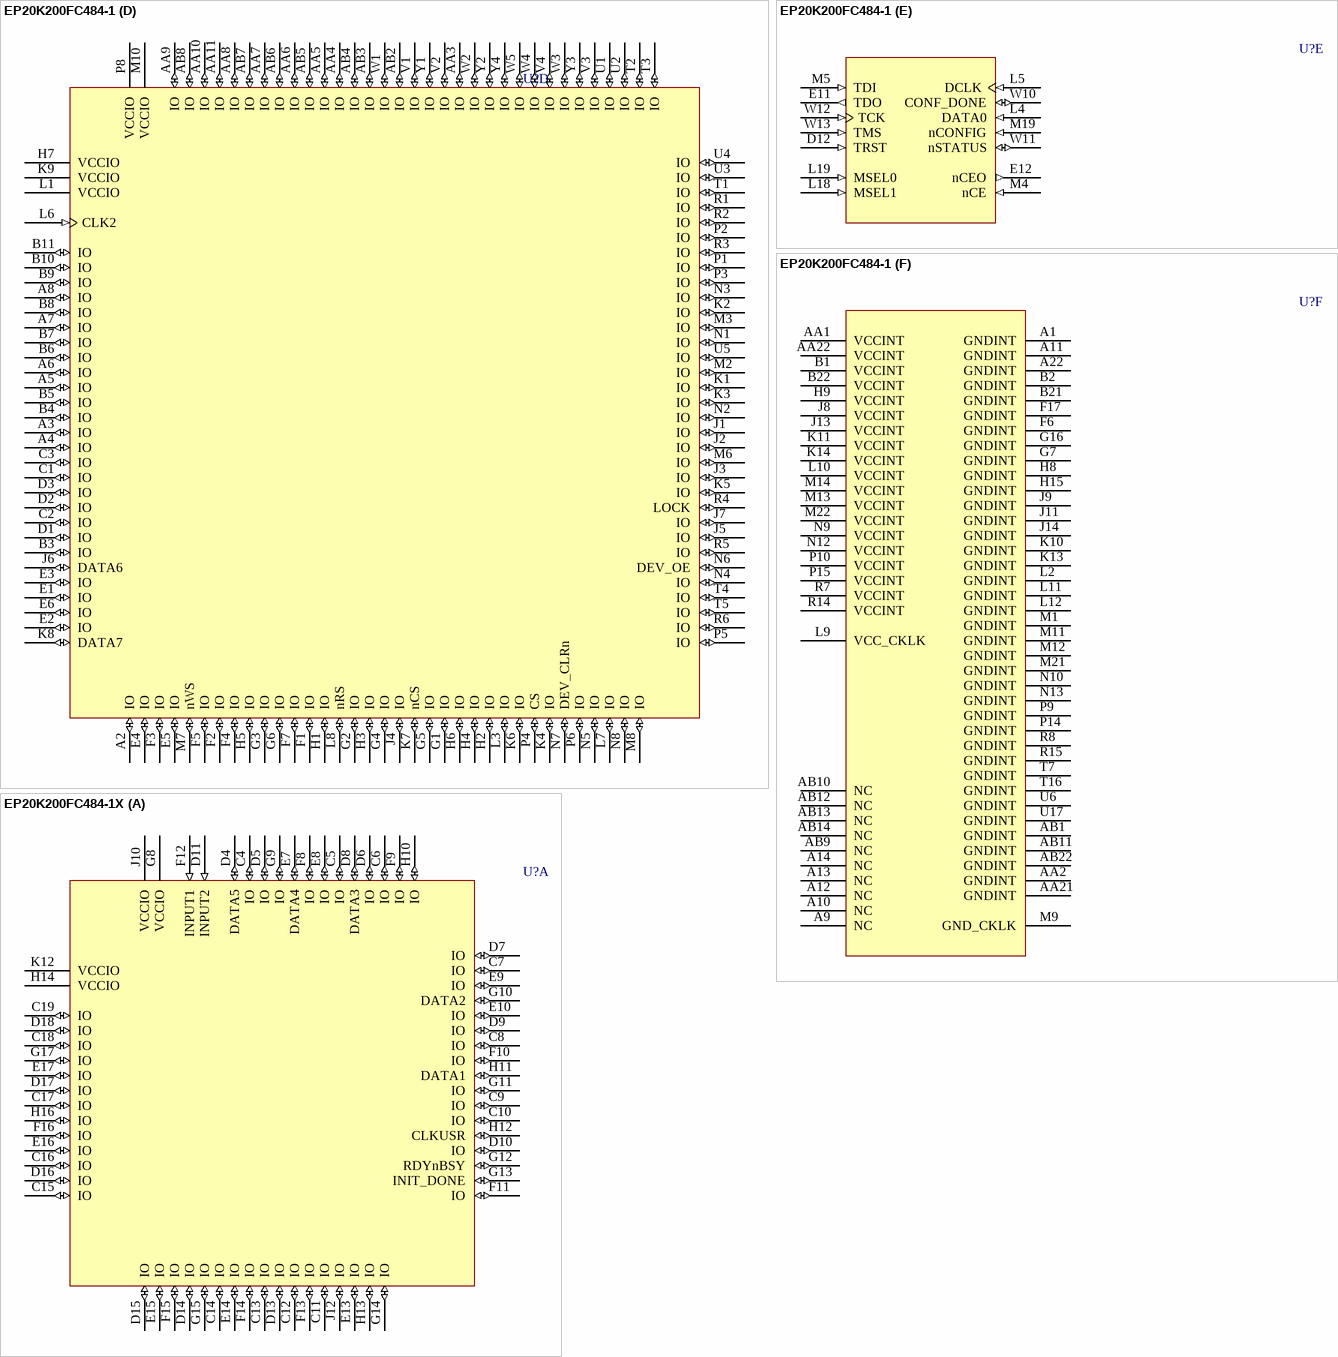
[diagram p59: symbols EP20K200FC484-1 to EP20K200FC484-1X]

## EP20K200FC484-1
designator U?
APEX 20K200 PLD, 484-Pin FBGA, Commercial Grade, Speed Grade 1; Published: 17-Jul-2002; LatestRevisionDate: 13-Apr-2006; LatestRevisionNote: IPC-7351 Footprint Added.; DatasheetVersion: ver5.1, Mar-2004; PackageVersion: ver16.0, Dec-2009; PackageReference: FBGA484; Publisher: Altium Limited; PackageDescription: 484-Ball FineLine Ball Grid Array (FBGA484) - Flip Chip; Code_JEDEC: MS-034-AAJ-1; Code_IPC: BGA100P22X22-484; ComponentLink1Description: Manufacturer Link; ComponentLink1URL: http://www.altera.com/products/devices/apex/apx-index.html; ComponentLink2Description: Datasheet; ComponentLink2URL: http://www.altera.com/literature/ds/apex.pdf
footprint FBGA484 (BGA, 484-Leads, Body 23x23mm, Pitch 1mm)
3D model EP20K200-FBGA484 (484-Ball FineLine Ball Grid Array (FBGA484) - Flip Chip)
part A pins: C4 IO (io), C5 IO (io), C6 IO (io), C7 IO (io), C8 IO (io), C9 IO (io), C10 IO (io), C11 IO (io), C12 IO (io), C13 IO (io), C14 IO (io), C15 IO (io), C16 IO (io), C17 IO (io), C18 IO (io), C19 IO (io), D4 DATA5 (io), D5 IO (io), D6 IO (io), D7 IO (io), D8 DATA3 (io), D9 IO (io), D10 IO (io), D11 INPUT2 (in), D13 IO (io), D14 IO (io), D15 IO (io), D16 IO (io), D17 IO (io), D18 IO (io), E7 DATA4 (io), E8 IO (io), E9 IO (io), E10 IO (io), E13 IO (io), E14 IO (io), E15 IO (io), E16 IO (io), E17 IO (io), F8 IO (io), F9 IO (io), F10 IO (io), F11 IO (io), F12 INPUT1 (in), F13 IO (io), F14 IO (io), F15 IO (io), F16 IO (io), G8 VCCIO (power), G9 IO (io), G10 DATA2 (io), G11 IO (io), G12 RDYnBSY (io), G13 INIT_DONE (io), G14 IO (io), G15 IO (io), G17 IO (io), H10 IO (io), H11 DATA1 (io), H12 CLKUSR (io), H13 IO (io), H14 VCCIO (power), H16 IO (io), J10 VCCIO (power), J12 IO (io), K12 VCCIO (power)
part B pins: A15 IO (io), A16 IO (io), A17 IO (io), A18 IO (io), A19 IO (io), A20 IO (io), A21 IO (io), AA12 IO (io), AA13 IO (io), AA14 IO (io), AA15 IO (io), AA16 IO (io), AA17 IO (io), AA18 IO (io), AA19 IO (io), AA20 IO (io), AB15 IO (io), AB16 IO (io), AB17 IO (io), AB18 IO (io), AB19 IO (io), AB20 IO (io), AB21 IO (io), B12 IO (io), B13 IO (io), B14 IO (io), B15 IO (io), B16 IO (io), B17 IO (io), B18 IO (io), B19 IO (io), B20 IO (io), C20 IO (io), C21 IO (io), C22 IO (io), D19 IO (io), D20 IO (io), D21 IO (io), D22 IO (io), E18 IO (io), E19 IO (io), E20 IO (io), E21 IO (io), E22 IO (io), F18 IO (io), F19 IO (io), F20 IO (io), F21 IO (io), F22 IO (io), G18 IO (io), G19 IO (io), G20 IO (io), G21 IO (io), G22 IO (io), H17 IO (io), H18 IO (io), H19 IO (io), H20 IO (io), H21 IO (io), H22 IO (io), J15 VCCIO (power), J16 IO (io), J17 IO (io), J18 IO (io), J19 IO (io), J20 IO (io), J21 IO (io), J22 IO (io), K15 IO (io), K16 IO (io), K17 IO (io), K18 IO (io), K19 IO (io), K20 IO (io), K21 IO (io), K22 IO (io), L13 VCCIO (power), L14 IO (io), L15 IO (io), L16 IO (io), L17 IO (io), L20 IO (io), L21 IO (io), L22 VCCIO (power), M15 IO (io), M16 IO (io), M17 IO (io), M18 CLK1 (in), M20 IO (io), N14 VCCIO (power), N15 IO (io), N16 IO (io), N17 IO (io), N18 IO (io), N19 IO (io), N20 IO (io), N21 IO (io), N22 IO (io), P16 IO (io), P17 IO (io), P18 IO (io), P19 IO (io), P20 IO (io), P21 IO (io), P22 IO (io), R16 VCCIO (power), R17 IO (io), R18 IO (io), R19 IO (io), R20 IO (io), R21 IO (io), R22 IO (io), T17 IO (io), T18 IO (io), T19 IO (io), T20 IO (io), T21 IO (io), T22 IO (io), U19 IO (io), U20 IO (io), U21 IO (io), U22 IO (io), V19 IO (io), V20 IO (io), V21 IO (io), V22 IO (io), W19 IO (io), W20 IO (io), W21 IO (io), W22 IO (io), Y19 IO (io), Y20 IO (io), Y21 IO (io), Y22 IO (io)
part C pins: N11 VCCIO (power), P7 IO (io), P11 IO (io), P12 IO (io), P13 VCCIO (power), R9 VCCIO (power), R10 IO (io), R11 IO (io), R12 IO (io), R13 IO (io), T6 IO (io), T8 VCCIO (power), T9 IO (io), T10 IO (io), T11 IO (io), T12 IO (io), T13 IO (io), T14 IO (io), T15 VCCIO (power), U7 IO (io), U8 IO (io), U9 IO (io), U10 IO (io), U11 IO (io), U12 IO (io), U13 IO (io), U14 IO (io), U15 IO (io), U16 IO (io), U18 IO (io), V5 IO (io), V6 IO (io), V7 IO (io), V8 IO (io), V9 IO (io), V10 IO (io), V11 INPUT4 (in), V12 INPUT3 (in), V13 IO (io), V14 IO (io), V15 IO (io), V16 IO (io), V17 IO (io), V18 IO (io), W6 IO (io), W7 IO (io), W8 IO (io), W9 IO (io), W14 IO (io), W15 IO (io), W16 IO (io), W17 IO (io), W18 IO (io), Y5 IO (io), Y6 IO (io), Y7 IO (io), Y8 IO (io), Y9 IO (io), Y10 IO (io), Y11 IO (io), Y12 IO (io), Y13 IO (io), Y14 IO (io), Y15 IO (io), Y16 IO (io), Y17 IO (io), Y18 IO (io)
part D pins: A2 IO (io), A3 IO (io), A4 IO (io), A5 IO (io), A6 IO (io), A7 IO (io), A8 IO (io), AA3 IO (io), AA4 IO (io), AA5 IO (io), AA6 IO (io), AA7 IO (io), AA8 IO (io), AA9 IO (io), AA10 IO (io), AA11 IO (io), AB2 IO (io), AB3 IO (io), AB4 IO (io), AB5 IO (io), AB6 IO (io), AB7 IO (io), AB8 IO (io), B3 IO (io), B4 IO (io), B5 IO (io), B6 IO (io), B7 IO (io), B8 IO (io), B9 IO (io), B10 IO (io), B11 IO (io), C1 IO (io), C2 IO (io), C3 IO (io), D1 IO (io), D2 IO (io), D3 IO (io), E1 IO (io), E2 IO (io), E3 IO (io), E4 IO (io), E5 IO (io), E6 IO (io), F1 IO (io), F2 IO (io), F3 IO (io), F4 IO (io), F5 IO (io), F7 IO (io), G1 IO (io), G2 IO (io), G3 IO (io), G4 IO (io), G5 IO (io), G6 IO (io), H1 IO (io), H2 IO (io), H3 IO (io), H4 IO (io), H5 IO (io), H6 IO (io), H7 VCCIO (power), J1 IO (io), J2 IO (io), J3 IO (io), J4 IO (io), J5 IO (io), J6 DATA6 (io), J7 IO (io), K1 IO (io), K2 IO (io), K3 IO (io), K4 IO (io), K5 IO (io), K6 IO (io), K7 nCS (io), K8 DATA7 (io), K9 VCCIO (power), L1 VCCIO (power), L3 IO (io), L6 CLK2 (in), L7 IO (io), L8 nRS (io), M2 IO (io), M3 IO (io), M6 IO (io), M7 nWS (io), M8 IO (io), M10 VCCIO (power), N1 IO (io), N2 IO (io), N3 IO (io), N4 IO (io), N5 IO (io), N6 DEV_OE (io), N7 DEV_CLRn (io), N8 IO (io), P1 IO (io), P2 IO (io), P3 IO (io), P4 CS (io), P5 IO (io), P6 IO (io), P8 VCCIO (power), R1 IO (io), R2 IO (io), R3 IO (io), R4 LOCK (io), R5 IO (io), R6 IO (io), T1 IO (io), T2 IO (io), T3 IO (io), T4 IO (io), T5 IO (io), U1 IO (io), U2 IO (io), U3 IO (io), U4 IO (io), U5 IO (io), V1 IO (io), V2 IO (io), V3 IO (io), V4 IO (io), W1 IO (io), W2 IO (io), W3 IO (io), W4 IO (io), W5 IO (io), Y1 IO (io), Y2 IO (io), Y3 IO (io), Y4 IO (io)
part E pins: D12 TRST (in), E11 TDO (out), E12 nCEO (out), L4 DATA0 (in), L5 DCLK (in), L18 MSEL1 (in), L19 MSEL0 (in), M4 nCE (in), M5 TDI (in), M19 nCONFIG (in), W10 CONF_DONE (io), W11 nSTATUS (io), W12 TCK (in), W13 TMS (in)
part F pins: A1 GNDINT (power), A9 NC, A10 NC, A11 GNDINT (power), A12 NC, A13 NC, A14 NC, A22 GNDINT (power), AA1 VCCINT (power), AA2 GNDINT (power), AA21 GNDINT (power), AA22 VCCINT (power), AB1 GNDINT (power), AB9 NC, AB10 NC, AB11 GNDINT (power), AB12 NC, AB13 NC, AB14 NC, AB22 GNDINT (power), B1 VCCINT (power), B2 GNDINT (power), B21 GNDINT (power), B22 VCCINT (power), F6 GNDINT (power), F17 GNDINT (power), G7 GNDINT (power), G16 GNDINT (power), H8 GNDINT (power), H9 VCCINT (power), H15 GNDINT (power), J8 VCCINT (power), J9 GNDINT (power), J11 GNDINT (power), J13 VCCINT (power), J14 GNDINT (power), K10 GNDINT (power), K11 VCCINT (power), K13 GNDINT (power), K14 VCCINT (power), L2 GNDINT (power), L9 VCC_CKLK (power), L10 VCCINT (power), L11 GNDINT (power), L12 GNDINT (power), M1 GNDINT (power), M9 GND_CKLK (power), M11 GNDINT (power), M12 GNDINT (power), M13 VCCINT (power), M14 VCCINT (power), M21 GNDINT (power), M22 VCCINT (power), N9 VCCINT (power), N10 GNDINT (power), N12 VCCINT (power), N13 GNDINT (power), P9 GNDINT (power), P10 VCCINT (power), P14 GNDINT (power), P15 VCCINT (power), R7 VCCINT (power), R8 GNDINT (power), R14 VCCINT (power), R15 GNDINT (power), T7 GNDINT (power), T16 GNDINT (power), U6 GNDINT (power), U17 GNDINT (power)

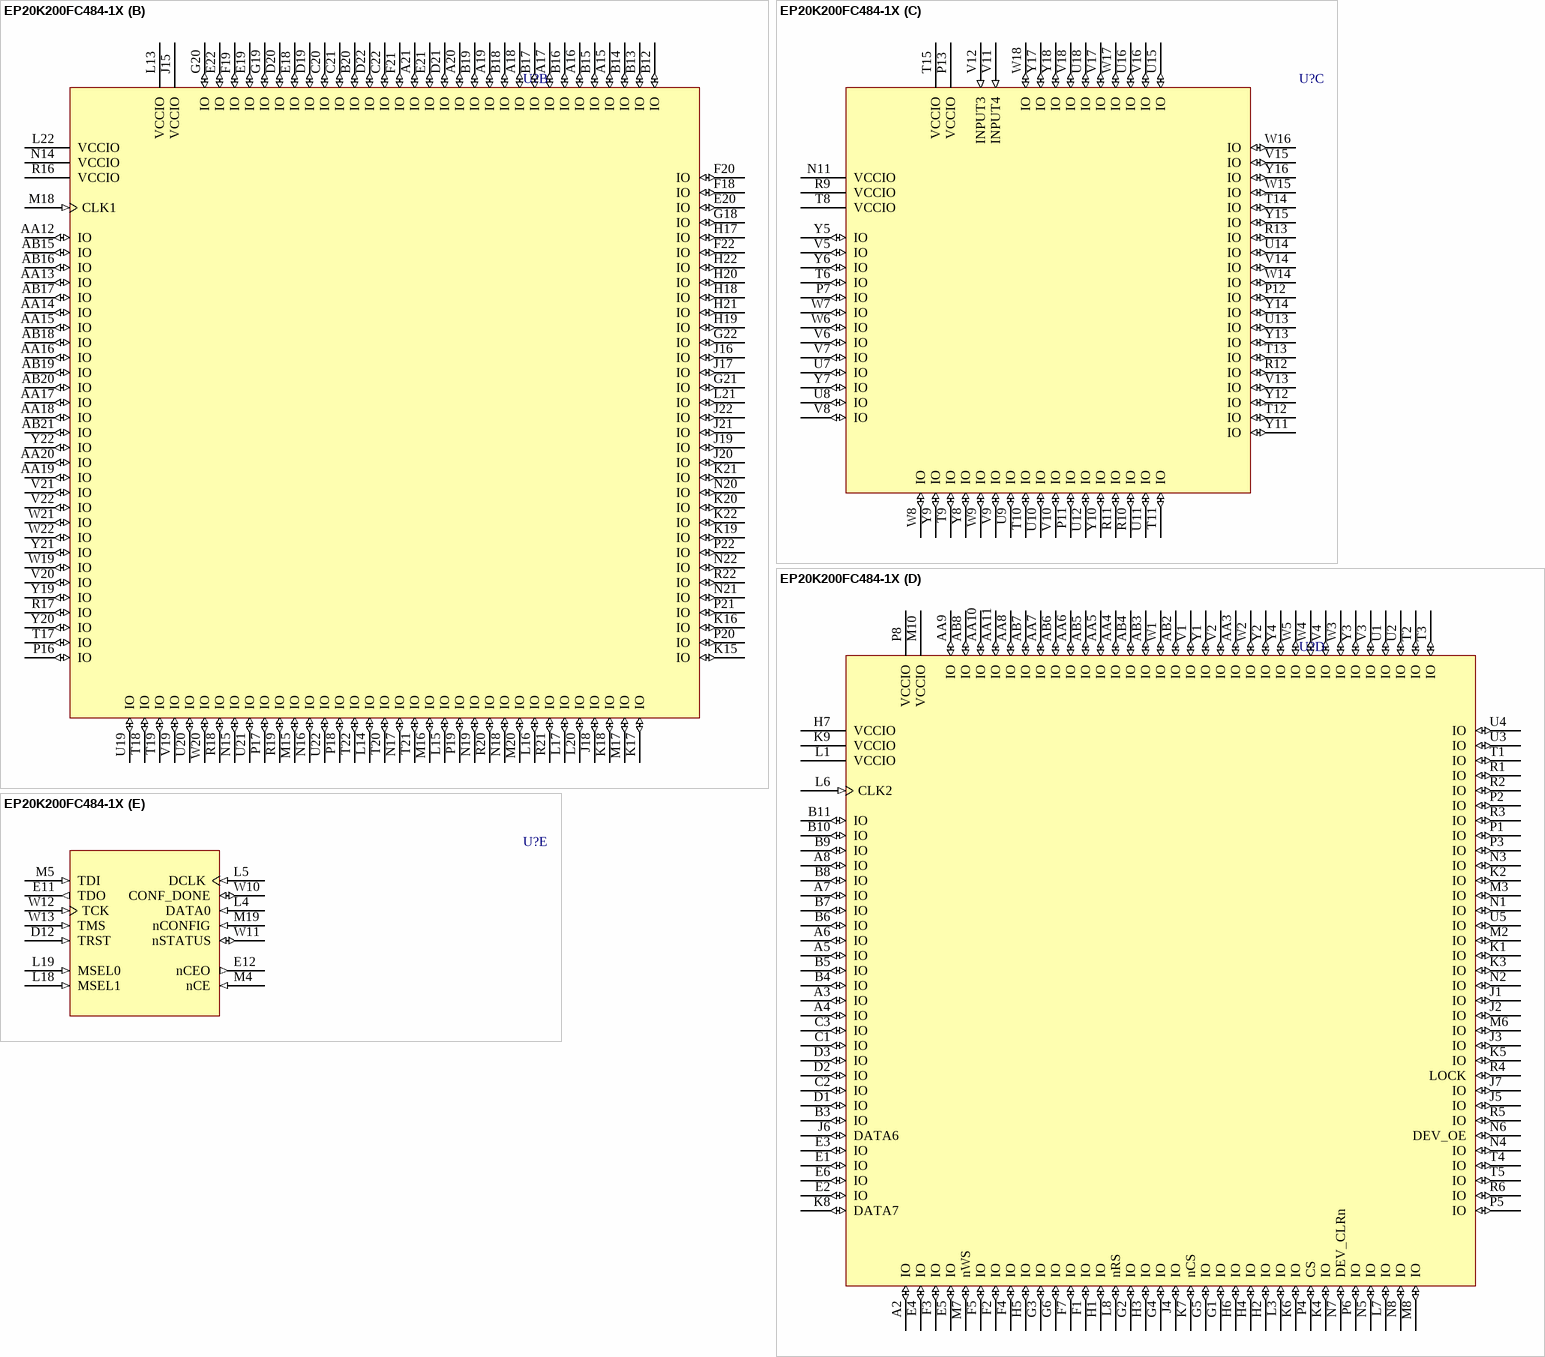
[diagram p60: symbol EP20K200FC484-1X]

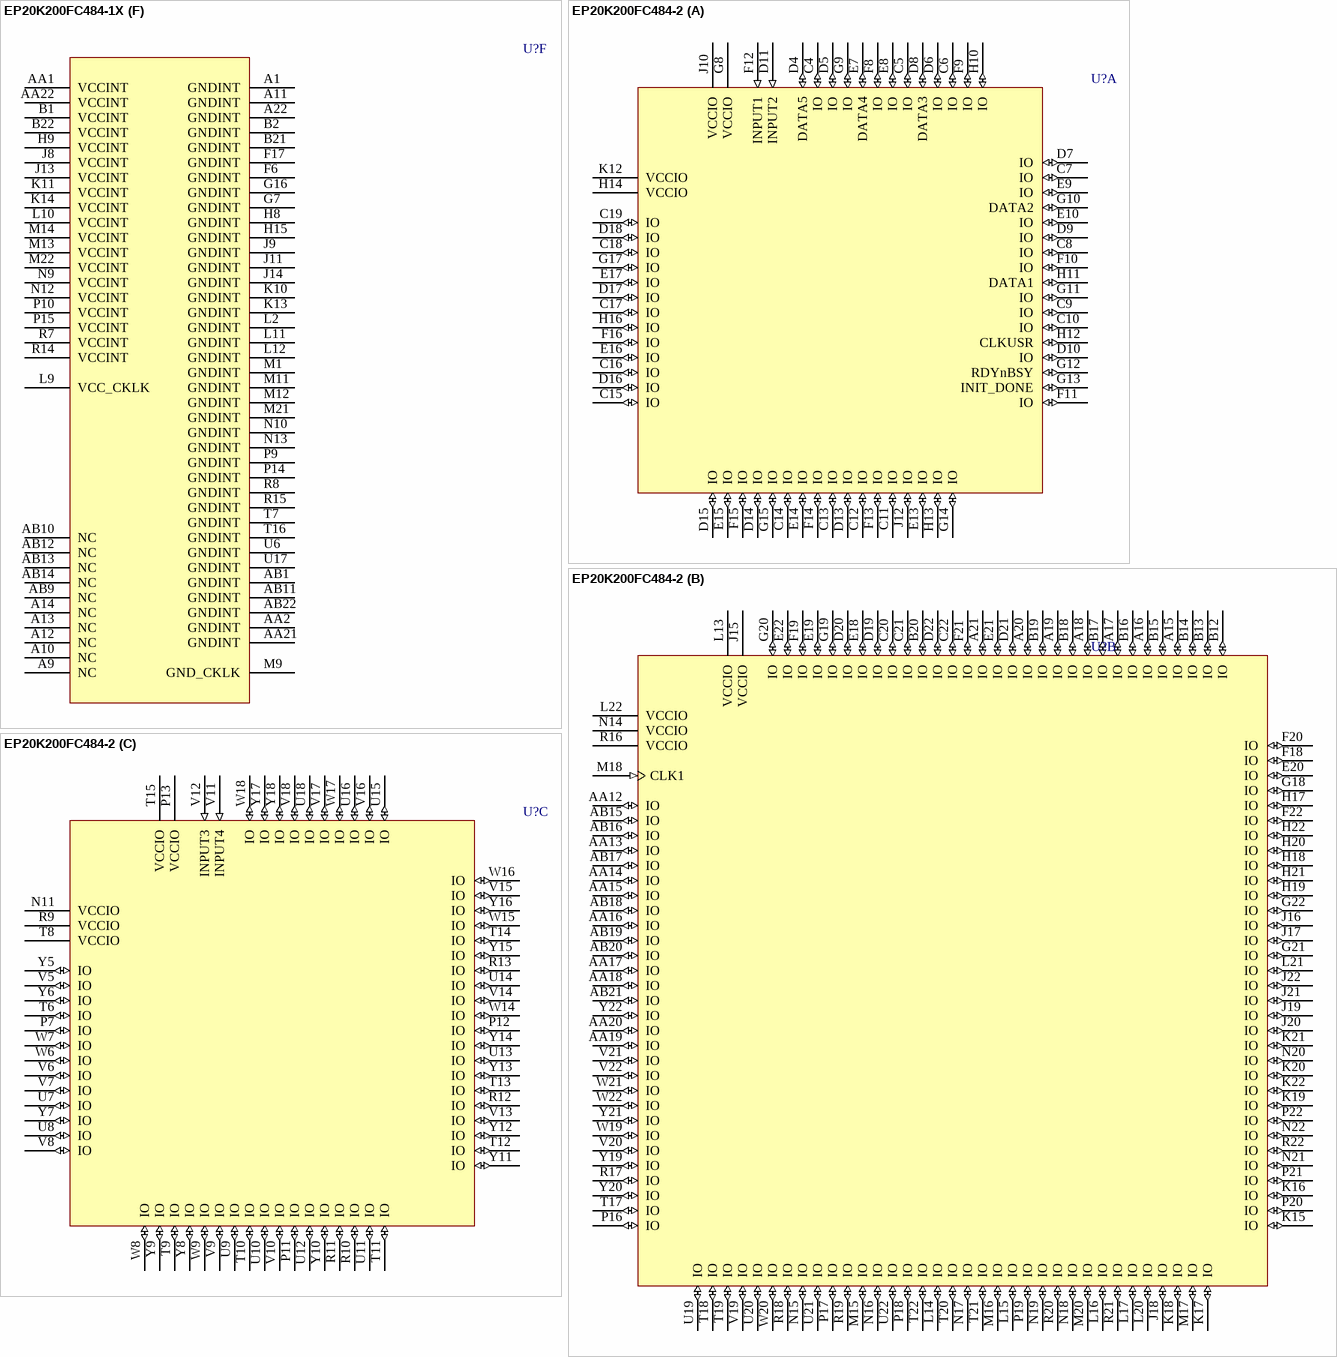
[diagram p61: symbols EP20K200FC484-1X to EP20K200FC484-2]

## EP20K200FC484-1X
designator U?
APEX 20K200 PLD with PLLs, 484-Pin FBGA, Commercial Grade, Speed Grade 1; Published: 17-Jul-2002; LatestRevisionDate: 13-Apr-2006; LatestRevisionNote: IPC-7351 Footprint Added.; DatasheetVersion: ver5.1, Mar-2004; PackageVersion: ver16.0, Dec-2009; PackageReference: FBGA484; Publisher: Altium Limited; PackageDescription: 484-Ball FineLine Ball Grid Array (FBGA484) - Flip Chip; Code_JEDEC: MS-034-AAJ-1; Code_IPC: BGA100P22X22-484; ComponentLink1Description: Manufacturer Link; ComponentLink1URL: http://www.altera.com/products/devices/apex/apx-index.html; ComponentLink2Description: Datasheet; ComponentLink2URL: http://www.altera.com/literature/ds/apex.pdf
footprint FBGA484 (BGA, 484-Leads, Body 23x23mm, Pitch 1mm)
3D model EP20K200-FBGA484 (484-Ball FineLine Ball Grid Array (FBGA484) - Flip Chip)
part A pins: C4 IO (io), C5 IO (io), C6 IO (io), C7 IO (io), C8 IO (io), C9 IO (io), C10 IO (io), C11 IO (io), C12 IO (io), C13 IO (io), C14 IO (io), C15 IO (io), C16 IO (io), C17 IO (io), C18 IO (io), C19 IO (io), D4 DATA5 (io), D5 IO (io), D6 IO (io), D7 IO (io), D8 DATA3 (io), D9 IO (io), D10 IO (io), D11 INPUT2 (in), D13 IO (io), D14 IO (io), D15 IO (io), D16 IO (io), D17 IO (io), D18 IO (io), E7 DATA4 (io), E8 IO (io), E9 IO (io), E10 IO (io), E13 IO (io), E14 IO (io), E15 IO (io), E16 IO (io), E17 IO (io), F8 IO (io), F9 IO (io), F10 IO (io), F11 IO (io), F12 INPUT1 (in), F13 IO (io), F14 IO (io), F15 IO (io), F16 IO (io), G8 VCCIO (power), G9 IO (io), G10 DATA2 (io), G11 IO (io), G12 RDYnBSY (io), G13 INIT_DONE (io), G14 IO (io), G15 IO (io), G17 IO (io), H10 IO (io), H11 DATA1 (io), H12 CLKUSR (io), H13 IO (io), H14 VCCIO (power), H16 IO (io), J10 VCCIO (power), J12 IO (io), K12 VCCIO (power)
part B pins: A15 IO (io), A16 IO (io), A17 IO (io), A18 IO (io), A19 IO (io), A20 IO (io), A21 IO (io), AA12 IO (io), AA13 IO (io), AA14 IO (io), AA15 IO (io), AA16 IO (io), AA17 IO (io), AA18 IO (io), AA19 IO (io), AA20 IO (io), AB15 IO (io), AB16 IO (io), AB17 IO (io), AB18 IO (io), AB19 IO (io), AB20 IO (io), AB21 IO (io), B12 IO (io), B13 IO (io), B14 IO (io), B15 IO (io), B16 IO (io), B17 IO (io), B18 IO (io), B19 IO (io), B20 IO (io), C20 IO (io), C21 IO (io), C22 IO (io), D19 IO (io), D20 IO (io), D21 IO (io), D22 IO (io), E18 IO (io), E19 IO (io), E20 IO (io), E21 IO (io), E22 IO (io), F18 IO (io), F19 IO (io), F20 IO (io), F21 IO (io), F22 IO (io), G18 IO (io), G19 IO (io), G20 IO (io), G21 IO (io), G22 IO (io), H17 IO (io), H18 IO (io), H19 IO (io), H20 IO (io), H21 IO (io), H22 IO (io), J15 VCCIO (power), J16 IO (io), J17 IO (io), J18 IO (io), J19 IO (io), J20 IO (io), J21 IO (io), J22 IO (io), K15 IO (io), K16 IO (io), K17 IO (io), K18 IO (io), K19 IO (io), K20 IO (io), K21 IO (io), K22 IO (io), L13 VCCIO (power), L14 IO (io), L15 IO (io), L16 IO (io), L17 IO (io), L20 IO (io), L21 IO (io), L22 VCCIO (power), M15 IO (io), M16 IO (io), M17 IO (io), M18 CLK1 (in), M20 IO (io), N14 VCCIO (power), N15 IO (io), N16 IO (io), N17 IO (io), N18 IO (io), N19 IO (io), N20 IO (io), N21 IO (io), N22 IO (io), P16 IO (io), P17 IO (io), P18 IO (io), P19 IO (io), P20 IO (io), P21 IO (io), P22 IO (io), R16 VCCIO (power), R17 IO (io), R18 IO (io), R19 IO (io), R20 IO (io), R21 IO (io), R22 IO (io), T17 IO (io), T18 IO (io), T19 IO (io), T20 IO (io), T21 IO (io), T22 IO (io), U19 IO (io), U20 IO (io), U21 IO (io), U22 IO (io), V19 IO (io), V20 IO (io), V21 IO (io), V22 IO (io), W19 IO (io), W20 IO (io), W21 IO (io), W22 IO (io), Y19 IO (io), Y20 IO (io), Y21 IO (io), Y22 IO (io)
part C pins: N11 VCCIO (power), P7 IO (io), P11 IO (io), P12 IO (io), P13 VCCIO (power), R9 VCCIO (power), R10 IO (io), R11 IO (io), R12 IO (io), R13 IO (io), T6 IO (io), T8 VCCIO (power), T9 IO (io), T10 IO (io), T11 IO (io), T12 IO (io), T13 IO (io), T14 IO (io), T15 VCCIO (power), U7 IO (io), U8 IO (io), U9 IO (io), U10 IO (io), U11 IO (io), U12 IO (io), U13 IO (io), U14 IO (io), U15 IO (io), U16 IO (io), U18 IO (io), V5 IO (io), V6 IO (io), V7 IO (io), V8 IO (io), V9 IO (io), V10 IO (io), V11 INPUT4 (in), V12 INPUT3 (in), V13 IO (io), V14 IO (io), V15 IO (io), V16 IO (io), V17 IO (io), V18 IO (io), W6 IO (io), W7 IO (io), W8 IO (io), W9 IO (io), W14 IO (io), W15 IO (io), W16 IO (io), W17 IO (io), W18 IO (io), Y5 IO (io), Y6 IO (io), Y7 IO (io), Y8 IO (io), Y9 IO (io), Y10 IO (io), Y11 IO (io), Y12 IO (io), Y13 IO (io), Y14 IO (io), Y15 IO (io), Y16 IO (io), Y17 IO (io), Y18 IO (io)
part D pins: A2 IO (io), A3 IO (io), A4 IO (io), A5 IO (io), A6 IO (io), A7 IO (io), A8 IO (io), AA3 IO (io), AA4 IO (io), AA5 IO (io), AA6 IO (io), AA7 IO (io), AA8 IO (io), AA9 IO (io), AA10 IO (io), AA11 IO (io), AB2 IO (io), AB3 IO (io), AB4 IO (io), AB5 IO (io), AB6 IO (io), AB7 IO (io), AB8 IO (io), B3 IO (io), B4 IO (io), B5 IO (io), B6 IO (io), B7 IO (io), B8 IO (io), B9 IO (io), B10 IO (io), B11 IO (io), C1 IO (io), C2 IO (io), C3 IO (io), D1 IO (io), D2 IO (io), D3 IO (io), E1 IO (io), E2 IO (io), E3 IO (io), E4 IO (io), E5 IO (io), E6 IO (io), F1 IO (io), F2 IO (io), F3 IO (io), F4 IO (io), F5 IO (io), F7 IO (io), G1 IO (io), G2 IO (io), G3 IO (io), G4 IO (io), G5 IO (io), G6 IO (io), H1 IO (io), H2 IO (io), H3 IO (io), H4 IO (io), H5 IO (io), H6 IO (io), H7 VCCIO (power), J1 IO (io), J2 IO (io), J3 IO (io), J4 IO (io), J5 IO (io), J6 DATA6 (io), J7 IO (io), K1 IO (io), K2 IO (io), K3 IO (io), K4 IO (io), K5 IO (io), K6 IO (io), K7 nCS (io), K8 DATA7 (io), K9 VCCIO (power), L1 VCCIO (power), L3 IO (io), L6 CLK2 (in), L7 IO (io), L8 nRS (io), M2 IO (io), M3 IO (io), M6 IO (io), M7 nWS (io), M8 IO (io), M10 VCCIO (power), N1 IO (io), N2 IO (io), N3 IO (io), N4 IO (io), N5 IO (io), N6 DEV_OE (io), N7 DEV_CLRn (io), N8 IO (io), P1 IO (io), P2 IO (io), P3 IO (io), P4 CS (io), P5 IO (io), P6 IO (io), P8 VCCIO (power), R1 IO (io), R2 IO (io), R3 IO (io), R4 LOCK (io), R5 IO (io), R6 IO (io), T1 IO (io), T2 IO (io), T3 IO (io), T4 IO (io), T5 IO (io), U1 IO (io), U2 IO (io), U3 IO (io), U4 IO (io), U5 IO (io), V1 IO (io), V2 IO (io), V3 IO (io), V4 IO (io), W1 IO (io), W2 IO (io), W3 IO (io), W4 IO (io), W5 IO (io), Y1 IO (io), Y2 IO (io), Y3 IO (io), Y4 IO (io)
part E pins: D12 TRST (in), E11 TDO (out), E12 nCEO (out), L4 DATA0 (in), L5 DCLK (in), L18 MSEL1 (in), L19 MSEL0 (in), M4 nCE (in), M5 TDI (in), M19 nCONFIG (in), W10 CONF_DONE (io), W11 nSTATUS (io), W12 TCK (in), W13 TMS (in)
part F pins: A1 GNDINT (power), A9 NC, A10 NC, A11 GNDINT (power), A12 NC, A13 NC, A14 NC, A22 GNDINT (power), AA1 VCCINT (power), AA2 GNDINT (power), AA21 GNDINT (power), AA22 VCCINT (power), AB1 GNDINT (power), AB9 NC, AB10 NC, AB11 GNDINT (power), AB12 NC, AB13 NC, AB14 NC, AB22 GNDINT (power), B1 VCCINT (power), B2 GNDINT (power), B21 GNDINT (power), B22 VCCINT (power), F6 GNDINT (power), F17 GNDINT (power), G7 GNDINT (power), G16 GNDINT (power), H8 GNDINT (power), H9 VCCINT (power), H15 GNDINT (power), J8 VCCINT (power), J9 GNDINT (power), J11 GNDINT (power), J13 VCCINT (power), J14 GNDINT (power), K10 GNDINT (power), K11 VCCINT (power), K13 GNDINT (power), K14 VCCINT (power), L2 GNDINT (power), L9 VCC_CKLK (power), L10 VCCINT (power), L11 GNDINT (power), L12 GNDINT (power), M1 GNDINT (power), M9 GND_CKLK (power), M11 GNDINT (power), M12 GNDINT (power), M13 VCCINT (power), M14 VCCINT (power), M21 GNDINT (power), M22 VCCINT (power), N9 VCCINT (power), N10 GNDINT (power), N12 VCCINT (power), N13 GNDINT (power), P9 GNDINT (power), P10 VCCINT (power), P14 GNDINT (power), P15 VCCINT (power), R7 VCCINT (power), R8 GNDINT (power), R14 VCCINT (power), R15 GNDINT (power), T7 GNDINT (power), T16 GNDINT (power), U6 GNDINT (power), U17 GNDINT (power)

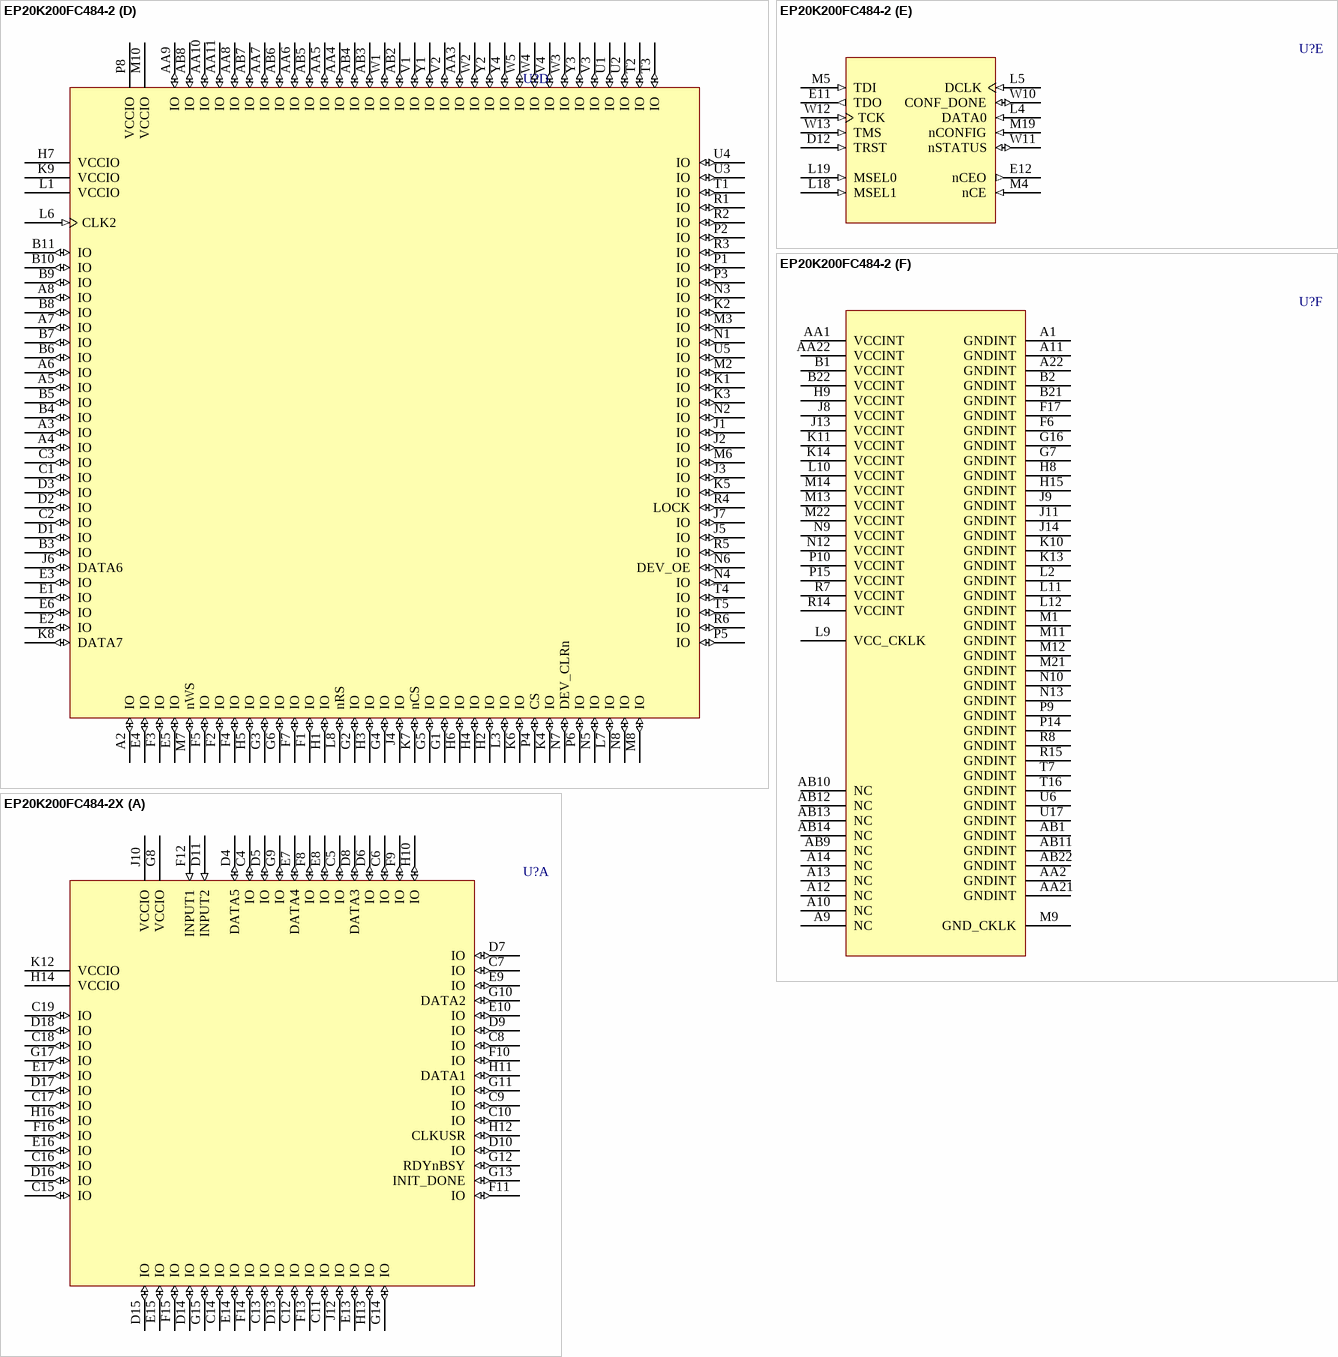
[diagram p62: symbols EP20K200FC484-2 to EP20K200FC484-2X]

## EP20K200FC484-2
designator U?
APEX 20K200 PLD, 484-Pin FBGA, Commercial Grade, Speed Grade 2; Published: 17-Jul-2002; LatestRevisionDate: 13-Apr-2006; LatestRevisionNote: IPC-7351 Footprint Added.; DatasheetVersion: ver5.1, Mar-2004; PackageVersion: ver16.0, Dec-2009; PackageReference: FBGA484; Publisher: Altium Limited; PackageDescription: 484-Ball FineLine Ball Grid Array (FBGA484) - Flip Chip; Code_JEDEC: MS-034-AAJ-1; Code_IPC: BGA100P22X22-484; ComponentLink1Description: Manufacturer Link; ComponentLink1URL: http://www.altera.com/products/devices/apex/apx-index.html; ComponentLink2Description: Datasheet; ComponentLink2URL: http://www.altera.com/literature/ds/apex.pdf
footprint FBGA484 (BGA, 484-Leads, Body 23x23mm, Pitch 1mm)
3D model EP20K200-FBGA484 (484-Ball FineLine Ball Grid Array (FBGA484) - Flip Chip)
part A pins: C4 IO (io), C5 IO (io), C6 IO (io), C7 IO (io), C8 IO (io), C9 IO (io), C10 IO (io), C11 IO (io), C12 IO (io), C13 IO (io), C14 IO (io), C15 IO (io), C16 IO (io), C17 IO (io), C18 IO (io), C19 IO (io), D4 DATA5 (io), D5 IO (io), D6 IO (io), D7 IO (io), D8 DATA3 (io), D9 IO (io), D10 IO (io), D11 INPUT2 (in), D13 IO (io), D14 IO (io), D15 IO (io), D16 IO (io), D17 IO (io), D18 IO (io), E7 DATA4 (io), E8 IO (io), E9 IO (io), E10 IO (io), E13 IO (io), E14 IO (io), E15 IO (io), E16 IO (io), E17 IO (io), F8 IO (io), F9 IO (io), F10 IO (io), F11 IO (io), F12 INPUT1 (in), F13 IO (io), F14 IO (io), F15 IO (io), F16 IO (io), G8 VCCIO (power), G9 IO (io), G10 DATA2 (io), G11 IO (io), G12 RDYnBSY (io), G13 INIT_DONE (io), G14 IO (io), G15 IO (io), G17 IO (io), H10 IO (io), H11 DATA1 (io), H12 CLKUSR (io), H13 IO (io), H14 VCCIO (power), H16 IO (io), J10 VCCIO (power), J12 IO (io), K12 VCCIO (power)
part B pins: A15 IO (io), A16 IO (io), A17 IO (io), A18 IO (io), A19 IO (io), A20 IO (io), A21 IO (io), AA12 IO (io), AA13 IO (io), AA14 IO (io), AA15 IO (io), AA16 IO (io), AA17 IO (io), AA18 IO (io), AA19 IO (io), AA20 IO (io), AB15 IO (io), AB16 IO (io), AB17 IO (io), AB18 IO (io), AB19 IO (io), AB20 IO (io), AB21 IO (io), B12 IO (io), B13 IO (io), B14 IO (io), B15 IO (io), B16 IO (io), B17 IO (io), B18 IO (io), B19 IO (io), B20 IO (io), C20 IO (io), C21 IO (io), C22 IO (io), D19 IO (io), D20 IO (io), D21 IO (io), D22 IO (io), E18 IO (io), E19 IO (io), E20 IO (io), E21 IO (io), E22 IO (io), F18 IO (io), F19 IO (io), F20 IO (io), F21 IO (io), F22 IO (io), G18 IO (io), G19 IO (io), G20 IO (io), G21 IO (io), G22 IO (io), H17 IO (io), H18 IO (io), H19 IO (io), H20 IO (io), H21 IO (io), H22 IO (io), J15 VCCIO (power), J16 IO (io), J17 IO (io), J18 IO (io), J19 IO (io), J20 IO (io), J21 IO (io), J22 IO (io), K15 IO (io), K16 IO (io), K17 IO (io), K18 IO (io), K19 IO (io), K20 IO (io), K21 IO (io), K22 IO (io), L13 VCCIO (power), L14 IO (io), L15 IO (io), L16 IO (io), L17 IO (io), L20 IO (io), L21 IO (io), L22 VCCIO (power), M15 IO (io), M16 IO (io), M17 IO (io), M18 CLK1 (in), M20 IO (io), N14 VCCIO (power), N15 IO (io), N16 IO (io), N17 IO (io), N18 IO (io), N19 IO (io), N20 IO (io), N21 IO (io), N22 IO (io), P16 IO (io), P17 IO (io), P18 IO (io), P19 IO (io), P20 IO (io), P21 IO (io), P22 IO (io), R16 VCCIO (power), R17 IO (io), R18 IO (io), R19 IO (io), R20 IO (io), R21 IO (io), R22 IO (io), T17 IO (io), T18 IO (io), T19 IO (io), T20 IO (io), T21 IO (io), T22 IO (io), U19 IO (io), U20 IO (io), U21 IO (io), U22 IO (io), V19 IO (io), V20 IO (io), V21 IO (io), V22 IO (io), W19 IO (io), W20 IO (io), W21 IO (io), W22 IO (io), Y19 IO (io), Y20 IO (io), Y21 IO (io), Y22 IO (io)
part C pins: N11 VCCIO (power), P7 IO (io), P11 IO (io), P12 IO (io), P13 VCCIO (power), R9 VCCIO (power), R10 IO (io), R11 IO (io), R12 IO (io), R13 IO (io), T6 IO (io), T8 VCCIO (power), T9 IO (io), T10 IO (io), T11 IO (io), T12 IO (io), T13 IO (io), T14 IO (io), T15 VCCIO (power), U7 IO (io), U8 IO (io), U9 IO (io), U10 IO (io), U11 IO (io), U12 IO (io), U13 IO (io), U14 IO (io), U15 IO (io), U16 IO (io), U18 IO (io), V5 IO (io), V6 IO (io), V7 IO (io), V8 IO (io), V9 IO (io), V10 IO (io), V11 INPUT4 (in), V12 INPUT3 (in), V13 IO (io), V14 IO (io), V15 IO (io), V16 IO (io), V17 IO (io), V18 IO (io), W6 IO (io), W7 IO (io), W8 IO (io), W9 IO (io), W14 IO (io), W15 IO (io), W16 IO (io), W17 IO (io), W18 IO (io), Y5 IO (io), Y6 IO (io), Y7 IO (io), Y8 IO (io), Y9 IO (io), Y10 IO (io), Y11 IO (io), Y12 IO (io), Y13 IO (io), Y14 IO (io), Y15 IO (io), Y16 IO (io), Y17 IO (io), Y18 IO (io)
part D pins: A2 IO (io), A3 IO (io), A4 IO (io), A5 IO (io), A6 IO (io), A7 IO (io), A8 IO (io), AA3 IO (io), AA4 IO (io), AA5 IO (io), AA6 IO (io), AA7 IO (io), AA8 IO (io), AA9 IO (io), AA10 IO (io), AA11 IO (io), AB2 IO (io), AB3 IO (io), AB4 IO (io), AB5 IO (io), AB6 IO (io), AB7 IO (io), AB8 IO (io), B3 IO (io), B4 IO (io), B5 IO (io), B6 IO (io), B7 IO (io), B8 IO (io), B9 IO (io), B10 IO (io), B11 IO (io), C1 IO (io), C2 IO (io), C3 IO (io), D1 IO (io), D2 IO (io), D3 IO (io), E1 IO (io), E2 IO (io), E3 IO (io), E4 IO (io), E5 IO (io), E6 IO (io), F1 IO (io), F2 IO (io), F3 IO (io), F4 IO (io), F5 IO (io), F7 IO (io), G1 IO (io), G2 IO (io), G3 IO (io), G4 IO (io), G5 IO (io), G6 IO (io), H1 IO (io), H2 IO (io), H3 IO (io), H4 IO (io), H5 IO (io), H6 IO (io), H7 VCCIO (power), J1 IO (io), J2 IO (io), J3 IO (io), J4 IO (io), J5 IO (io), J6 DATA6 (io), J7 IO (io), K1 IO (io), K2 IO (io), K3 IO (io), K4 IO (io), K5 IO (io), K6 IO (io), K7 nCS (io), K8 DATA7 (io), K9 VCCIO (power), L1 VCCIO (power), L3 IO (io), L6 CLK2 (in), L7 IO (io), L8 nRS (io), M2 IO (io), M3 IO (io), M6 IO (io), M7 nWS (io), M8 IO (io), M10 VCCIO (power), N1 IO (io), N2 IO (io), N3 IO (io), N4 IO (io), N5 IO (io), N6 DEV_OE (io), N7 DEV_CLRn (io), N8 IO (io), P1 IO (io), P2 IO (io), P3 IO (io), P4 CS (io), P5 IO (io), P6 IO (io), P8 VCCIO (power), R1 IO (io), R2 IO (io), R3 IO (io), R4 LOCK (io), R5 IO (io), R6 IO (io), T1 IO (io), T2 IO (io), T3 IO (io), T4 IO (io), T5 IO (io), U1 IO (io), U2 IO (io), U3 IO (io), U4 IO (io), U5 IO (io), V1 IO (io), V2 IO (io), V3 IO (io), V4 IO (io), W1 IO (io), W2 IO (io), W3 IO (io), W4 IO (io), W5 IO (io), Y1 IO (io), Y2 IO (io), Y3 IO (io), Y4 IO (io)
part E pins: D12 TRST (in), E11 TDO (out), E12 nCEO (out), L4 DATA0 (in), L5 DCLK (in), L18 MSEL1 (in), L19 MSEL0 (in), M4 nCE (in), M5 TDI (in), M19 nCONFIG (in), W10 CONF_DONE (io), W11 nSTATUS (io), W12 TCK (in), W13 TMS (in)
part F pins: A1 GNDINT (power), A9 NC, A10 NC, A11 GNDINT (power), A12 NC, A13 NC, A14 NC, A22 GNDINT (power), AA1 VCCINT (power), AA2 GNDINT (power), AA21 GNDINT (power), AA22 VCCINT (power), AB1 GNDINT (power), AB9 NC, AB10 NC, AB11 GNDINT (power), AB12 NC, AB13 NC, AB14 NC, AB22 GNDINT (power), B1 VCCINT (power), B2 GNDINT (power), B21 GNDINT (power), B22 VCCINT (power), F6 GNDINT (power), F17 GNDINT (power), G7 GNDINT (power), G16 GNDINT (power), H8 GNDINT (power), H9 VCCINT (power), H15 GNDINT (power), J8 VCCINT (power), J9 GNDINT (power), J11 GNDINT (power), J13 VCCINT (power), J14 GNDINT (power), K10 GNDINT (power), K11 VCCINT (power), K13 GNDINT (power), K14 VCCINT (power), L2 GNDINT (power), L9 VCC_CKLK (power), L10 VCCINT (power), L11 GNDINT (power), L12 GNDINT (power), M1 GNDINT (power), M9 GND_CKLK (power), M11 GNDINT (power), M12 GNDINT (power), M13 VCCINT (power), M14 VCCINT (power), M21 GNDINT (power), M22 VCCINT (power), N9 VCCINT (power), N10 GNDINT (power), N12 VCCINT (power), N13 GNDINT (power), P9 GNDINT (power), P10 VCCINT (power), P14 GNDINT (power), P15 VCCINT (power), R7 VCCINT (power), R8 GNDINT (power), R14 VCCINT (power), R15 GNDINT (power), T7 GNDINT (power), T16 GNDINT (power), U6 GNDINT (power), U17 GNDINT (power)

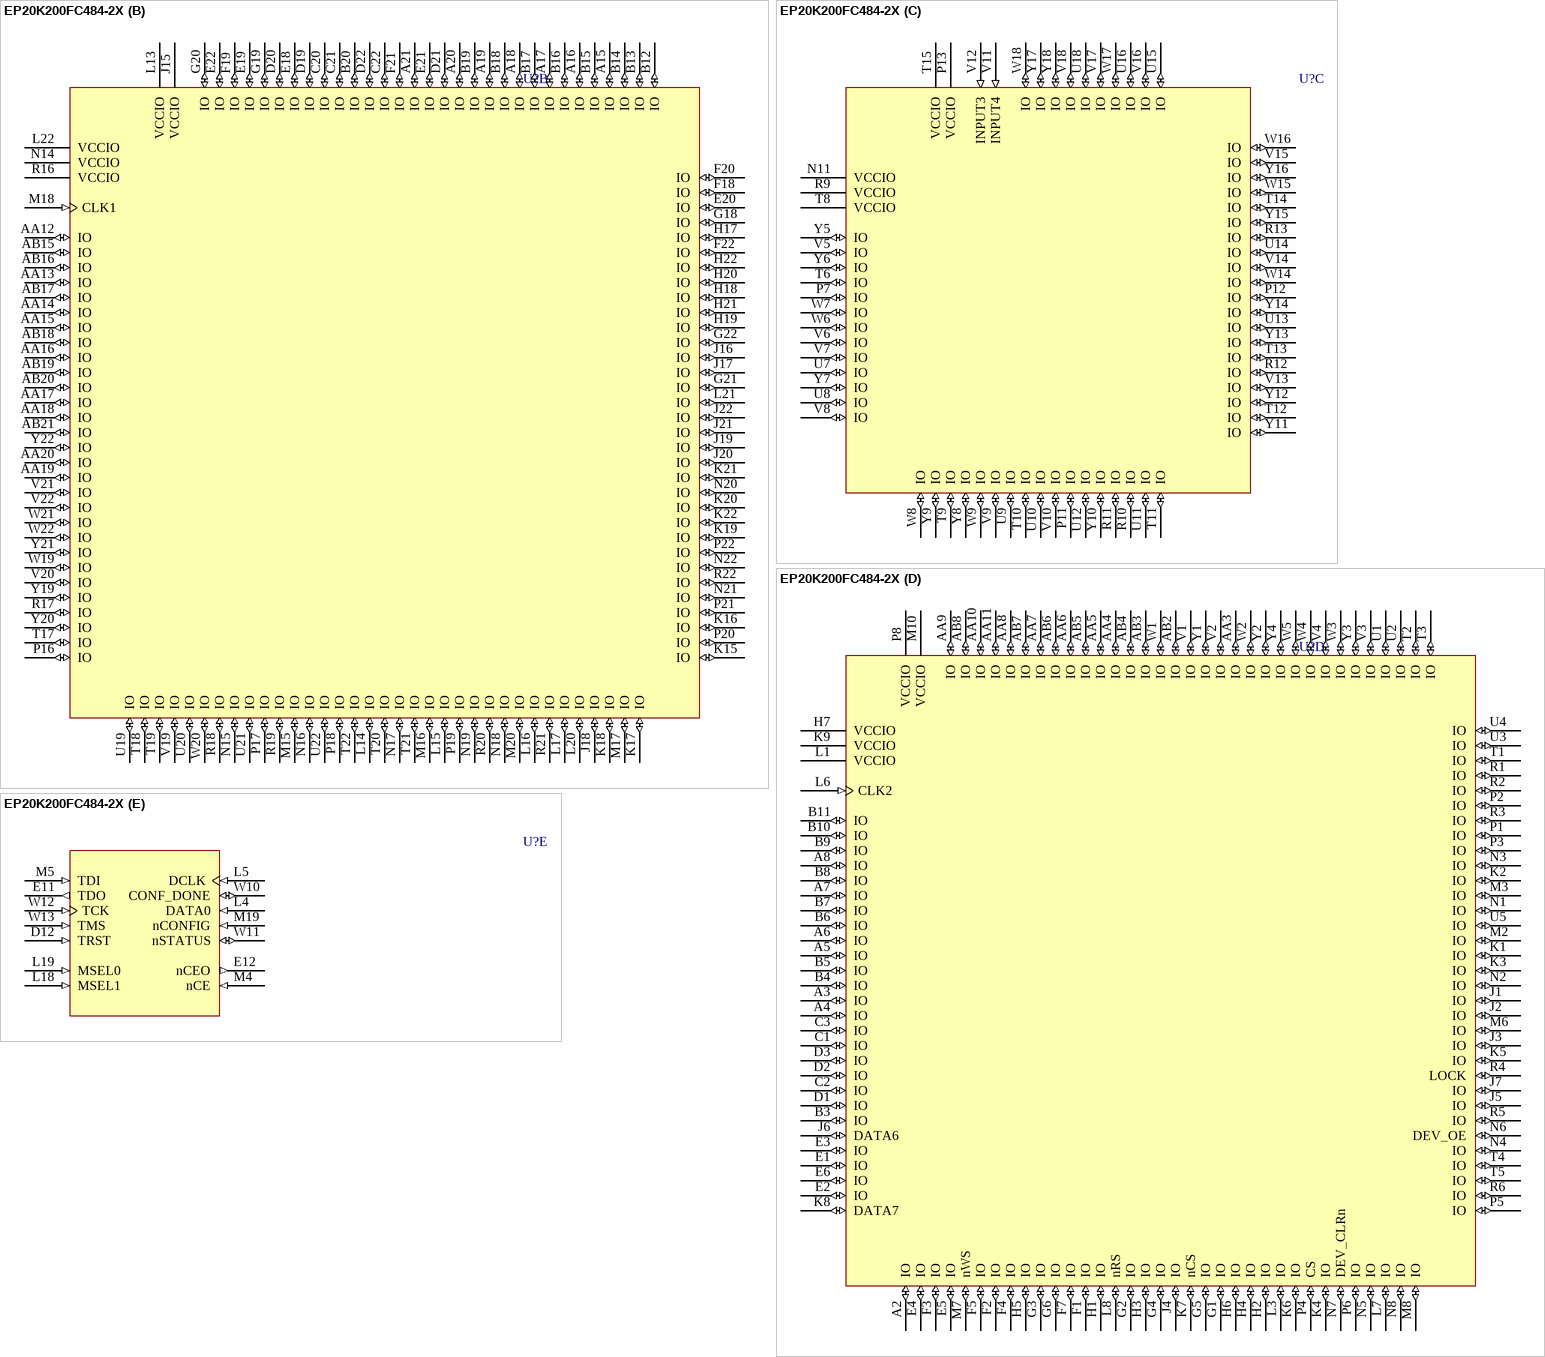
[diagram p63: symbol EP20K200FC484-2X]

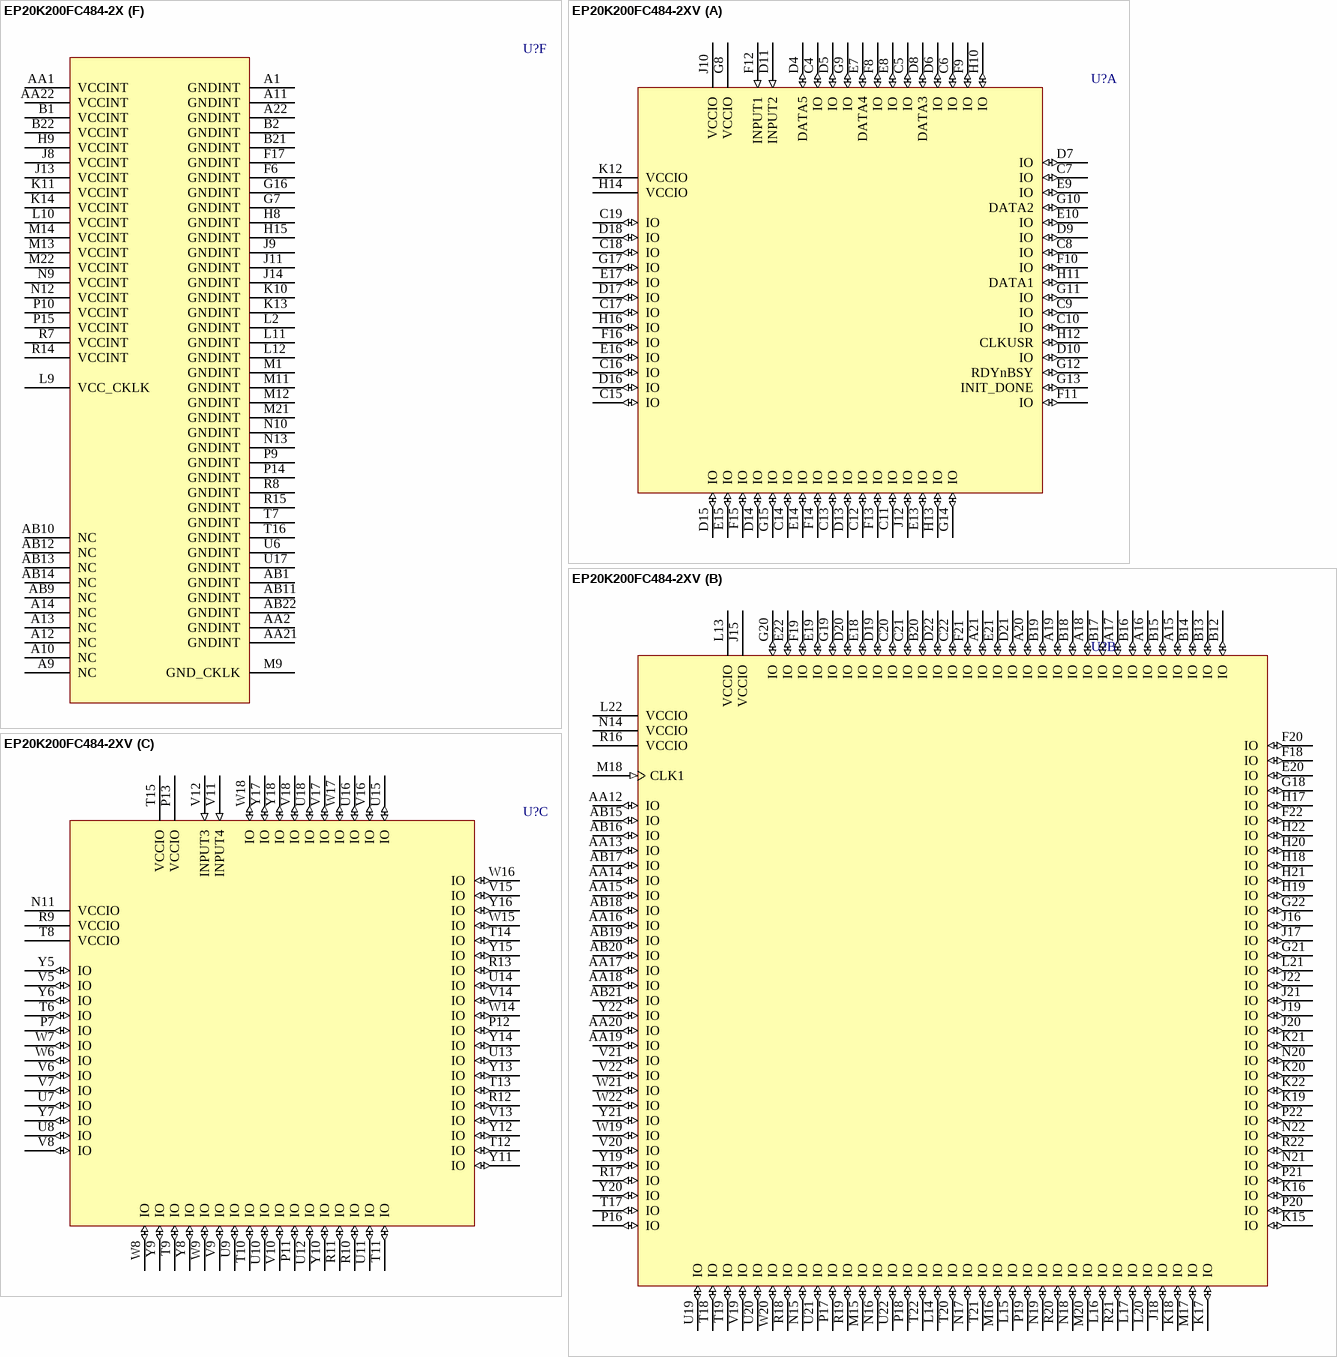
[diagram p64: symbols EP20K200FC484-2X to EP20K200FC484-2XV]